# Altium integrated library 74xx-eu.IntLib: 627 symbols (part 2 of 4)
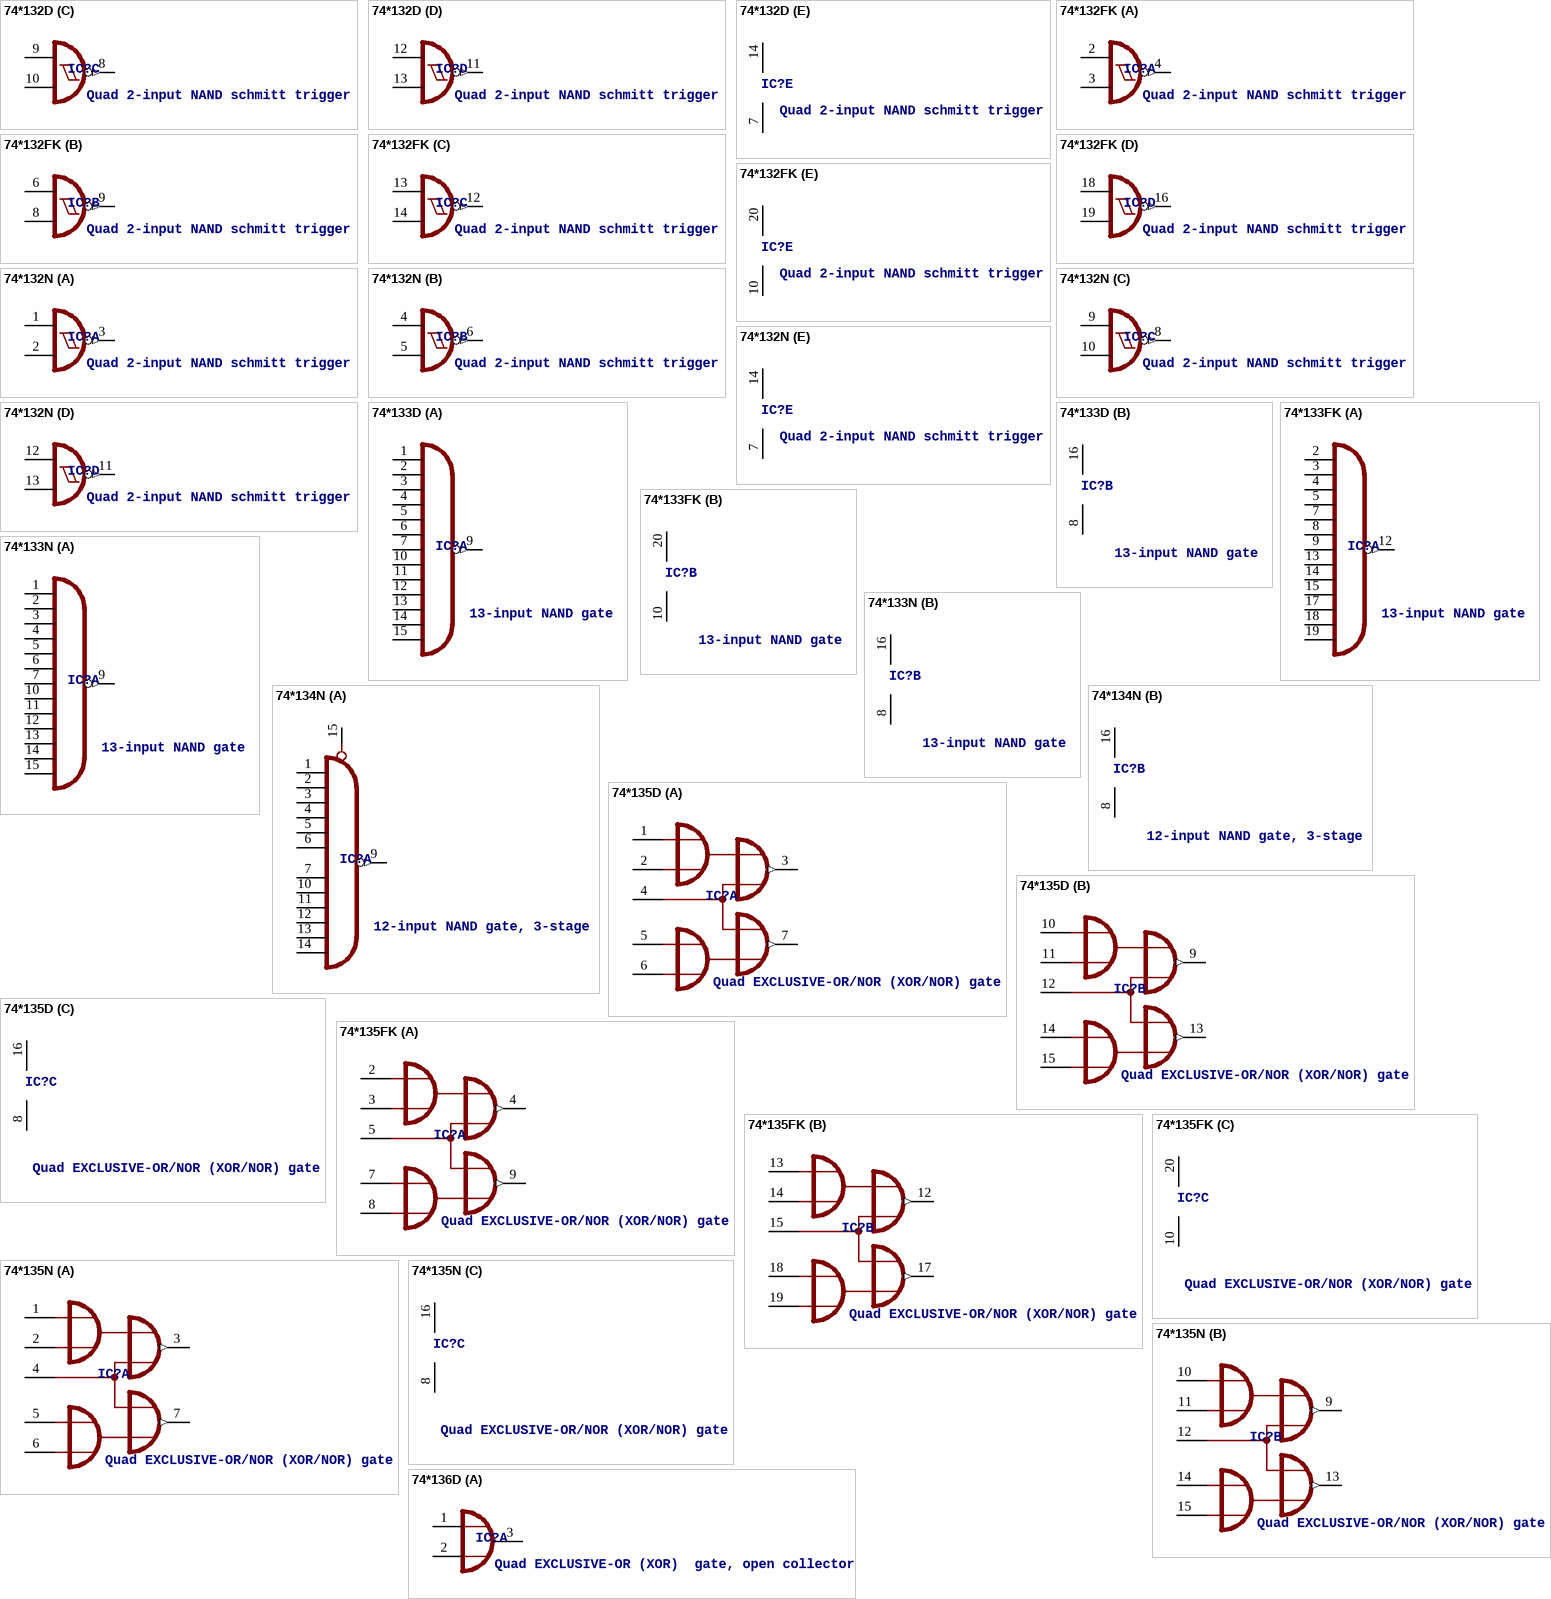
[diagram p56: symbols 74*132D to 74*136D]

## 74*135FK
designator IC?, comment Quad EXCLUSIVE-OR/NOR (XOR/NOR) gate
footprint LCC20
part A pins: 2 1A, 3 1B, 4 1Y (out), 5 C, 7 2A, 8 2B, 9 2Y (out)
part B pins: 12 1Y (out), 13 1A, 14 1B, 15 C, 17 2Y (out), 18 2A, 19 2B
part C pins: 10 GND (power), 20 VCC (power)

## 74*135N
designator IC?, comment Quad EXCLUSIVE-OR/NOR (XOR/NOR) gate
footprint DIL16
part A pins: 1 1A, 2 1B, 3 1Y (out), 4 C, 5 2A, 6 2B, 7 2Y (out)
part B pins: 9 1Y (out), 10 1A, 11 1B, 12 C, 13 2Y (out), 14 2A, 15 2B
part C pins: 8 GND (power), 16 VCC (power)

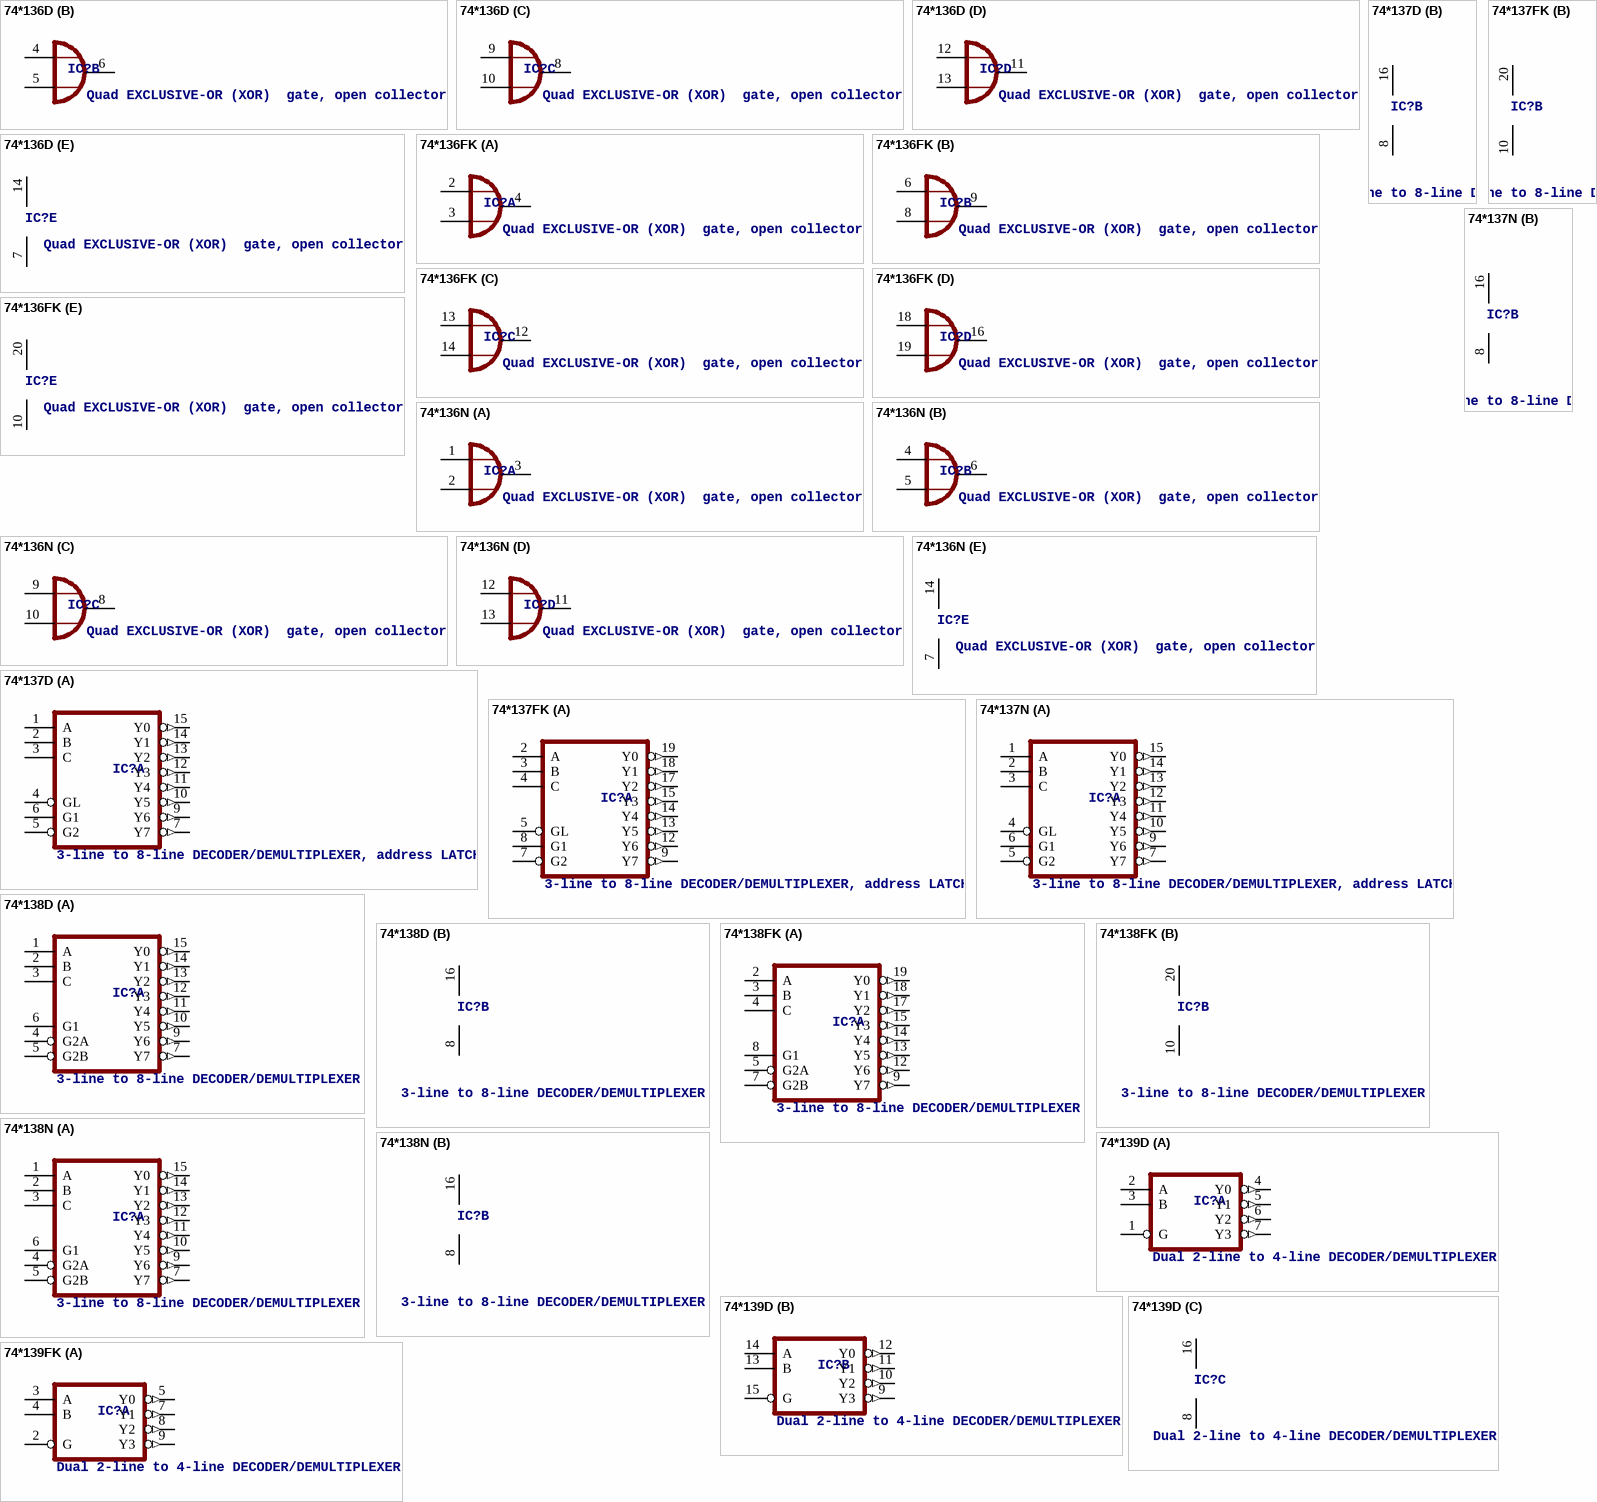
[diagram p20: symbols 74*136D to 74*139FK]

## 74*136D
designator IC?, comment Quad EXCLUSIVE-OR (XOR)  gate, open collector
footprint DIL14
part A pins: 1 I0, 2 I1, 3 O (oc)
part B pins: 4 I0, 5 I1, 6 O (oc)
part C pins: 8 O (oc), 9 I0, 10 I1
part D pins: 11 O (oc), 12 I0, 13 I1
part E pins: 7 GND (power), 14 VCC (power)

## 74*136FK
designator IC?, comment Quad EXCLUSIVE-OR (XOR)  gate, open collector
footprint LCC20
part A pins: 2 I0, 3 I1, 4 O (oc)
part B pins: 6 I0, 8 I1, 9 O (oc)
part C pins: 12 O (oc), 13 I0, 14 I1
part D pins: 16 O (oc), 18 I0, 19 I1
part E pins: 10 GND (power), 20 VCC (power)

## 74*136N
designator IC?, comment Quad EXCLUSIVE-OR (XOR)  gate, open collector
footprint DIL14
part A pins: 1 I0, 2 I1, 3 O (oc)
part B pins: 4 I0, 5 I1, 6 O (oc)
part C pins: 8 O (oc), 9 I0, 10 I1
part D pins: 11 O (oc), 12 I0, 13 I1
part E pins: 7 GND (power), 14 VCC (power)

## 74*137D
designator IC?, comment 3-line to 8-line DECODER/DEMULTIPLEXER, address LATCH
footprint SO16
part A pins: 1 A, 2 B, 3 C, 4 GL, 5 G2, 6 G1, 7 Y7 (out), 9 Y6 (out), 10 Y5 (out), 11 Y4 (out), 12 Y3 (out), 13 Y2 (out), 14 Y1 (out), 15 Y0 (out)
part B pins: 8 GND (power), 16 VCC (power)

## 74*137FK
designator IC?, comment 3-line to 8-line DECODER/DEMULTIPLEXER, address LATCH
footprint LCC20
part A pins: 2 A, 3 B, 4 C, 5 GL, 7 G2, 8 G1, 9 Y7 (out), 12 Y6 (out), 13 Y5 (out), 14 Y4 (out), 15 Y3 (out), 17 Y2 (out), 18 Y1 (out), 19 Y0 (out)
part B pins: 10 GND (power), 20 VCC (power)

## 74*137N
designator IC?, comment 3-line to 8-line DECODER/DEMULTIPLEXER, address LATCH
footprint DIL16
part A pins: 1 A, 2 B, 3 C, 4 GL, 5 G2, 6 G1, 7 Y7 (out), 9 Y6 (out), 10 Y5 (out), 11 Y4 (out), 12 Y3 (out), 13 Y2 (out), 14 Y1 (out), 15 Y0 (out)
part B pins: 8 GND (power), 16 VCC (power)

## 74*138D
designator IC?, comment 3-line to 8-line DECODER/DEMULTIPLEXER
footprint SO16
part A pins: 1 A, 2 B, 3 C, 4 G2A, 5 G2B, 6 G1, 7 Y7 (out), 9 Y6 (out), 10 Y5 (out), 11 Y4 (out), 12 Y3 (out), 13 Y2 (out), 14 Y1 (out), 15 Y0 (out)
part B pins: 8 GND (power), 16 VCC (power)

## 74*138FK
designator IC?, comment 3-line to 8-line DECODER/DEMULTIPLEXER
footprint LCC20
part A pins: 2 A, 3 B, 4 C, 5 G2A, 7 G2B, 8 G1, 9 Y7 (out), 12 Y6 (out), 13 Y5 (out), 14 Y4 (out), 15 Y3 (out), 17 Y2 (out), 18 Y1 (out), 19 Y0 (out)
part B pins: 10 GND (power), 20 VCC (power)

## 74*138N
designator IC?, comment 3-line to 8-line DECODER/DEMULTIPLEXER
footprint DIL16
part A pins: 1 A, 2 B, 3 C, 4 G2A, 5 G2B, 6 G1, 7 Y7 (out), 9 Y6 (out), 10 Y5 (out), 11 Y4 (out), 12 Y3 (out), 13 Y2 (out), 14 Y1 (out), 15 Y0 (out)
part B pins: 8 GND (power), 16 VCC (power)

## 74*139D
designator IC?, comment Dual 2-line to 4-line DECODER/DEMULTIPLEXER
footprint SO16
part A pins: 1 G, 2 A, 3 B, 4 Y0 (out), 5 Y1 (out), 6 Y2 (out), 7 Y3 (out)
part B pins: 9 Y3 (out), 10 Y2 (out), 11 Y1 (out), 12 Y0 (out), 13 B, 14 A, 15 G
part C pins: 8 GND (power), 16 VCC (power)

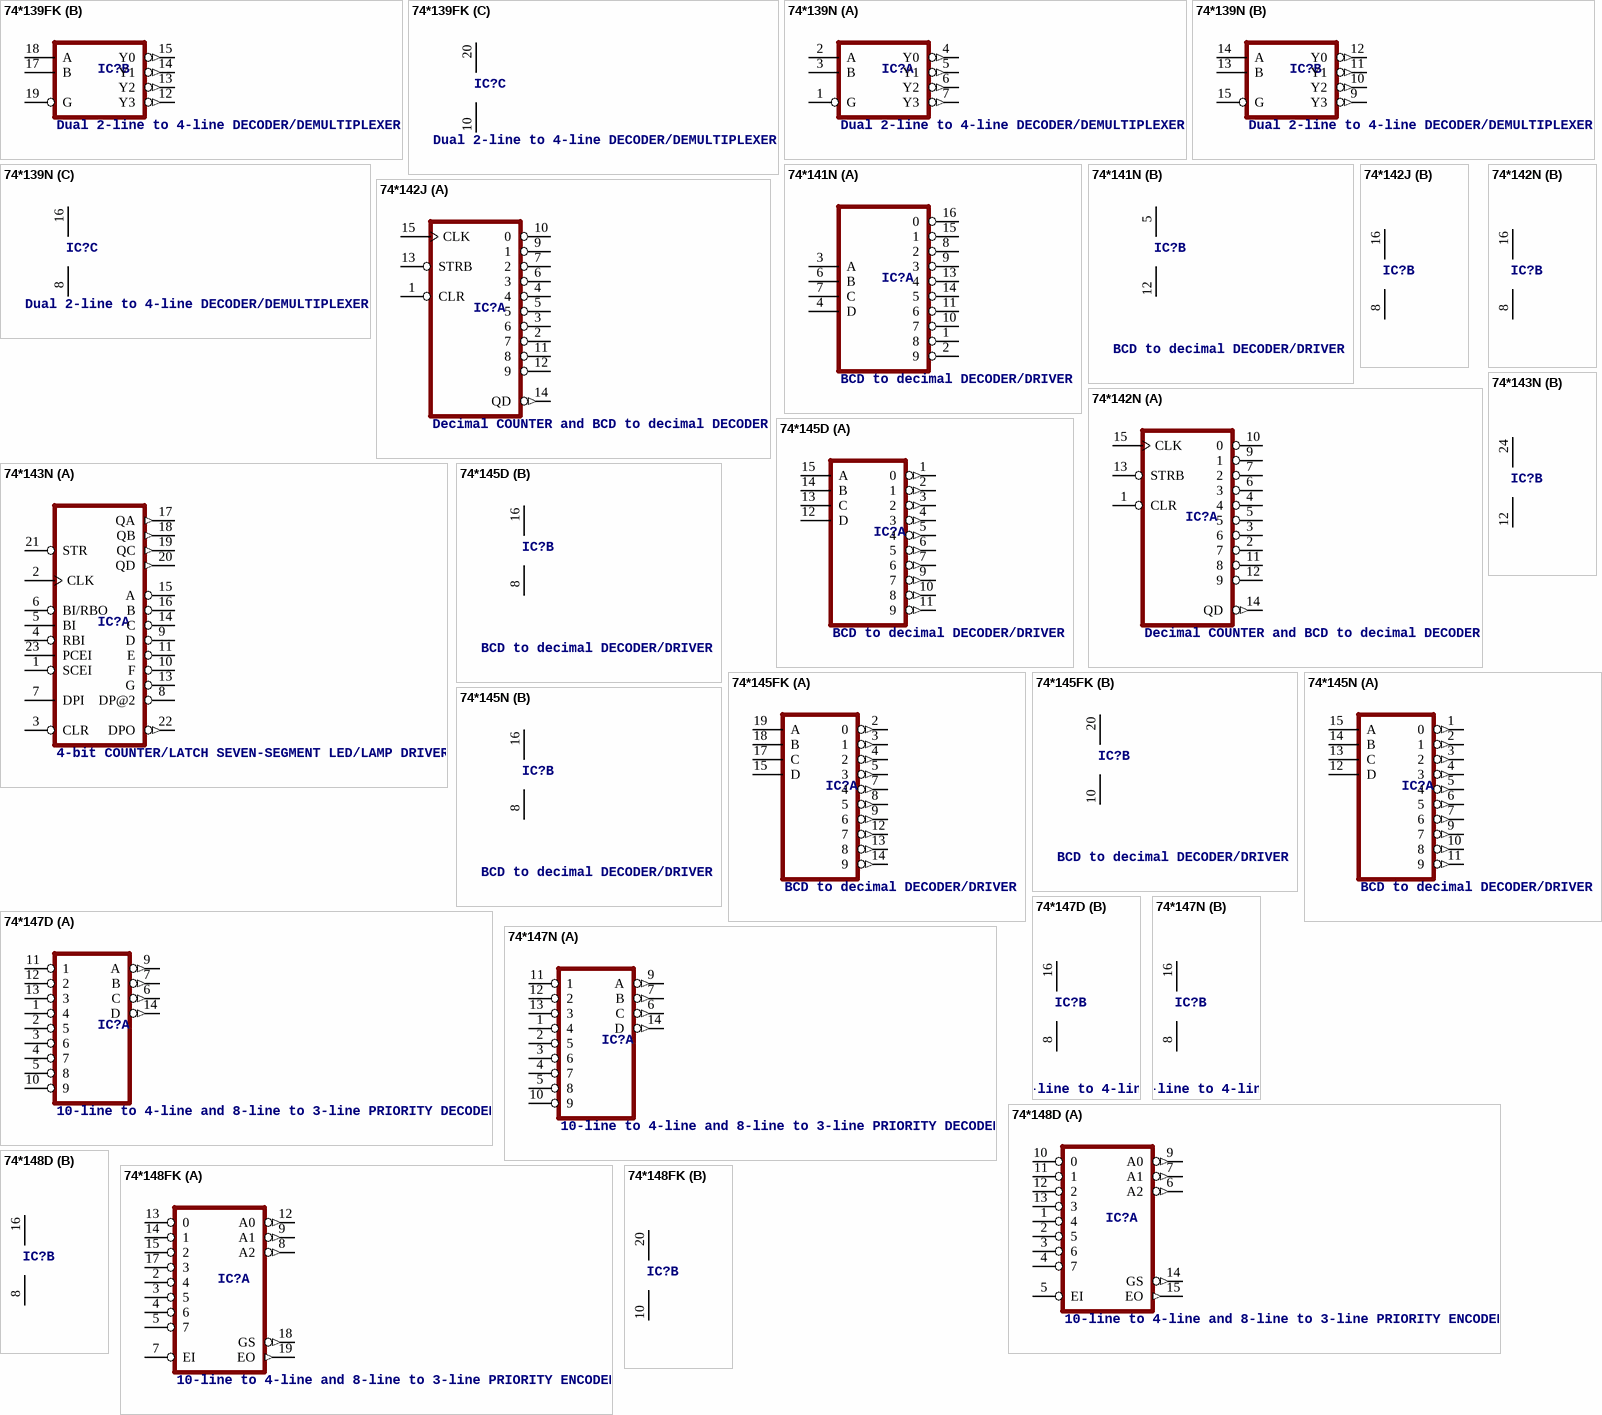
[diagram p21: symbols 74*139FK to 74*148FK]

## 74*139FK
designator IC?, comment Dual 2-line to 4-line DECODER/DEMULTIPLEXER
footprint LCC20
part A pins: 2 G, 3 A, 4 B, 5 Y0 (out), 7 Y1 (out), 8 Y2 (out), 9 Y3 (out)
part B pins: 12 Y3 (out), 13 Y2 (out), 14 Y1 (out), 15 Y0 (out), 17 B, 18 A, 19 G
part C pins: 10 GND (power), 20 VCC (power)

## 74*139N
designator IC?, comment Dual 2-line to 4-line DECODER/DEMULTIPLEXER
footprint DIL16
part A pins: 1 G, 2 A, 3 B, 4 Y0 (out), 5 Y1 (out), 6 Y2 (out), 7 Y3 (out)
part B pins: 9 Y3 (out), 10 Y2 (out), 11 Y1 (out), 12 Y0 (out), 13 B, 14 A, 15 G
part C pins: 8 GND (power), 16 VCC (power)

## 74*141N
designator IC?, comment BCD to decimal DECODER/DRIVER
footprint DIL16
part A pins: 1 8 (oc), 2 9 (oc), 3 A, 4 D, 6 B, 7 C, 8 2 (oc), 9 3 (oc), 10 7 (oc), 11 6 (oc), 13 4 (oc), 14 5 (oc), 15 1 (oc), 16 0 (oc)
part B pins: 5 VCC (power), 12 GND (power)

## 74*142J
designator IC?, comment Decimal COUNTER and BCD to decimal DECODER
footprint SO16
part A pins: 1 CLR, 2 7 (oc), 3 6 (oc), 4 (oc), 5 (oc), 6 3 (oc), 7 2 (oc), 9 1 (oc), 10 0 (oc), 11 8 (oc), 12 9 (oc), 13 STRB, 14 QD (out), 15 CLK
part B pins: 8 GND (power), 16 VCC (power)

## 74*142N
designator IC?, comment Decimal COUNTER and BCD to decimal DECODER
footprint DIL16
part A pins: 1 CLR, 2 7 (oc), 3 6 (oc), 4 (oc), 5 (oc), 6 3 (oc), 7 2 (oc), 9 1 (oc), 10 0 (oc), 11 8 (oc), 12 9 (oc), 13 STRB, 14 QD (out), 15 CLK
part B pins: 8 GND (power), 16 VCC (power)

## 74*143N
designator IC?, comment 4-bit COUNTER/LATCH SEVEN-SEGMENT LED/LAMP DRIVER
footprint DIL24-6
part A pins: 1 SCEI, 2 CLK, 3 CLR, 4 RBI, 5 BI, 6 BI/RBO, 7 DPI, 8 DP@2 (oc), 9 D (oc), 10 F (oc), 11 E (oc), 13 G (oc), 14 C (oc), 15 A (oc), 16 B (oc), 17 QA (out), 18 QB (out), 19 QC (out), 20 QD (out), 21 STR, 22 DPO (out), 23 PCEI
part B pins: 12 GND (power), 24 VCC (power)

## 74*145D
designator IC?, comment BCD to decimal DECODER/DRIVER
footprint SO16
part A pins: 1 0 (out), 2 1 (out), 3 2 (out), 4 3 (out), 5 4 (out), 6 5 (out), 7 6 (out), 9 7 (out), 10 8 (out), 11 9 (out), 12 D, 13 C, 14 B, 15 A
part B pins: 8 GND (power), 16 VCC (power)

## 74*145FK
designator IC?, comment BCD to decimal DECODER/DRIVER
footprint LCC20
part A pins: 2 0 (out), 3 1 (out), 4 2 (out), 5 3 (out), 7 4 (out), 8 5 (out), 9 6 (out), 12 7 (out), 13 8 (out), 14 9 (out), 15 D, 17 C, 18 B, 19 A
part B pins: 10 GND (power), 20 VCC (power)

## 74*145N
designator IC?, comment BCD to decimal DECODER/DRIVER
footprint DIL16
part A pins: 1 0 (out), 2 1 (out), 3 2 (out), 4 3 (out), 5 4 (out), 6 5 (out), 7 6 (out), 9 7 (out), 10 8 (out), 11 9 (out), 12 D, 13 C, 14 B, 15 A
part B pins: 8 GND (power), 16 VCC (power)

## 74*147D
designator IC?, comment 10-line to 4-line and 8-line to 3-line PRIORITY DECODER
footprint SO16
part A pins: 1 4, 2 5, 3 6, 4 7, 5 8, 6 C (out), 7 B (out), 9 A (out), 10 9, 11 1, 12 2, 13 3, 14 D (out)
part B pins: 8 GND (power), 16 VCC (power)

## 74*147N
designator IC?, comment 10-line to 4-line and 8-line to 3-line PRIORITY DECODER
footprint DIL16
part A pins: 1 4, 2 5, 3 6, 4 7, 5 8, 6 C (out), 7 B (out), 9 A (out), 10 9, 11 1, 12 2, 13 3, 14 D (out)
part B pins: 8 GND (power), 16 VCC (power)

## 74*148D
designator IC?, comment 10-line to 4-line and 8-line to 3-line PRIORITY ENCODER
footprint SO16
part A pins: 1 4, 2 5, 3 6, 4 7, 5 EI, 6 A2 (out), 7 A1 (out), 9 A0 (out), 10 0, 11 1, 12 2, 13 3, 14 GS (out), 15 EO (out)
part B pins: 8 GND (power), 16 VCC (power)

## 74*148FK
designator IC?, comment 10-line to 4-line and 8-line to 3-line PRIORITY ENCODER
footprint LCC20
part A pins: 2 4, 3 5, 4 6, 5 7, 7 EI, 8 A2 (out), 9 A1 (out), 12 A0 (out), 13 0, 14 1, 15 2, 17 3, 18 GS (out), 19 EO (out)
part B pins: 10 GND (power), 20 VCC (power)

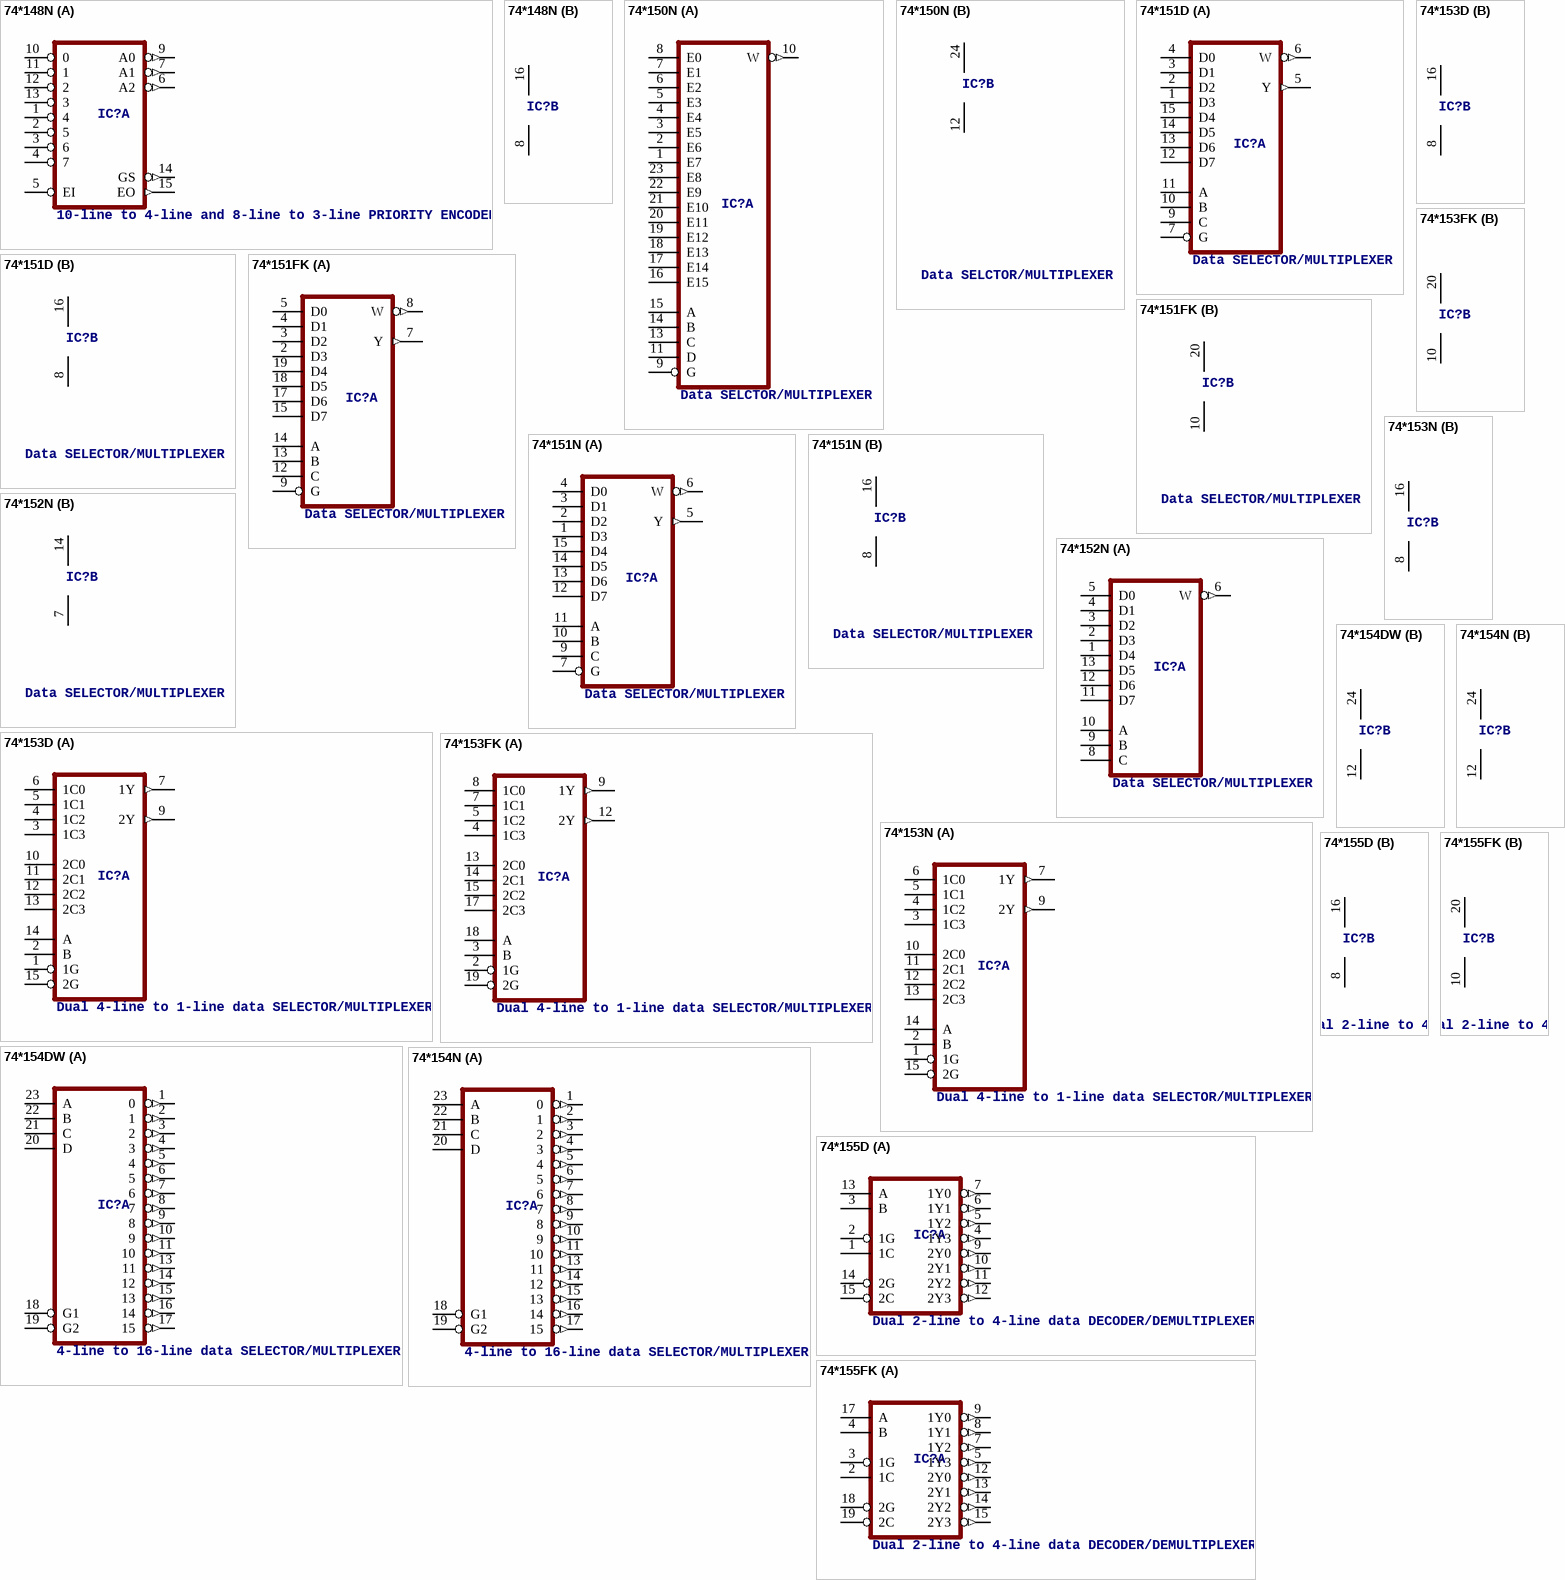
[diagram p22: symbols 74*148N to 74*155FK]

## 74*148N
designator IC?, comment 10-line to 4-line and 8-line to 3-line PRIORITY ENCODER
footprint DIL16
part A pins: 1 4, 2 5, 3 6, 4 7, 5 EI, 6 A2 (out), 7 A1 (out), 9 A0 (out), 10 0, 11 1, 12 2, 13 3, 14 GS (out), 15 EO (out)
part B pins: 8 GND (power), 16 VCC (power)

## 74*150N
designator IC?, comment Data SELCTOR/MULTIPLEXER
footprint DIL24-6
part A pins: 1 E7, 2 E6, 3 E5, 4 E4, 5 E3, 6 E2, 7 E1, 8 E0, 9 G, 10 W (out), 11 D, 13 C, 14 B, 15 A, 16 E15, 17 E14, 18 E13, 19 E12, 20 E11, 21 E10, 22 E9, 23 E8
part B pins: 12 GND (power), 24 VCC (power)

## 74*151D
designator IC?, comment Data SELECTOR/MULTIPLEXER
footprint SO16
part A pins: 1 D3, 2 D2, 3 D1, 4 D0, 5 Y (out), 6 W (out), 7 G, 9 C, 10 B, 11 A, 12 D7, 13 D6, 14 D5, 15 D4
part B pins: 8 GND (power), 16 VCC (power)

## 74*151FK
designator IC?, comment Data SELECTOR/MULTIPLEXER
footprint LCC20
part A pins: 2 D3, 3 D2, 4 D1, 5 D0, 7 Y (out), 8 W (out), 9 G, 12 C, 13 B, 14 A, 15 D7, 17 D6, 18 D5, 19 D4
part B pins: 10 GND (power), 20 VCC (power)

## 74*151N
designator IC?, comment Data SELECTOR/MULTIPLEXER
footprint DIL16
part A pins: 1 D3, 2 D2, 3 D1, 4 D0, 5 Y (out), 6 W (out), 7 G, 9 C, 10 B, 11 A, 12 D7, 13 D6, 14 D5, 15 D4
part B pins: 8 GND (power), 16 VCC (power)

## 74*152N
designator IC?, comment Data SELECTOR/MULTIPLEXER
footprint DIL14
part A pins: 1 D4, 2 D3, 3 D2, 4 D1, 5 D0, 6 W (out), 8 C, 9 B, 10 A, 11 D7, 12 D6, 13 D5
part B pins: 7 GND (power), 14 VCC (power)

## 74*153D
designator IC?, comment Dual 4-line to 1-line data SELECTOR/MULTIPLEXER
footprint SO16
part A pins: 1 1G, 2 B, 3 1C3, 4 1C2, 5 1C1, 6 1C0, 7 1Y (out), 9 2Y (out), 10 2C0, 11 2C1, 12 2C2, 13 2C3, 14 A, 15 2G
part B pins: 8 GND (power), 16 VCC (power)

## 74*153FK
designator IC?, comment Dual 4-line to 1-line data SELECTOR/MULTIPLEXER
footprint LCC20
part A pins: 2 1G, 3 B, 4 1C3, 5 1C2, 7 1C1, 8 1C0, 9 1Y (out), 12 2Y (out), 13 2C0, 14 2C1, 15 2C2, 17 2C3, 18 A, 19 2G
part B pins: 10 GND (power), 20 VCC (power)

## 74*153N
designator IC?, comment Dual 4-line to 1-line data SELECTOR/MULTIPLEXER
footprint DIL16
part A pins: 1 1G, 2 B, 3 1C3, 4 1C2, 5 1C1, 6 1C0, 7 1Y (out), 9 2Y (out), 10 2C0, 11 2C1, 12 2C2, 13 2C3, 14 A, 15 2G
part B pins: 8 GND (power), 16 VCC (power)

## 74*154DW
designator IC?, comment 4-line to 16-line data SELECTOR/MULTIPLEXER
footprint SO24W
part A pins: 1 0 (out), 2 1 (out), 3 2 (out), 4 3 (out), 5 4 (out), 6 5 (out), 7 6 (out), 8 7 (out), 9 8 (out), 10 9 (out), 11 10 (out), 13 11 (out), 14 12 (out), 15 13 (out), 16 14 (out), 17 15 (out), 18 G1, 19 G2, 20 D, 21 C, 22 B, 23 A
part B pins: 12 GND (power), 24 VCC (power)

## 74*154N
designator IC?, comment 4-line to 16-line data SELECTOR/MULTIPLEXER
footprint DIL24-6
part A pins: 1 0 (out), 2 1 (out), 3 2 (out), 4 3 (out), 5 4 (out), 6 5 (out), 7 6 (out), 8 7 (out), 9 8 (out), 10 9 (out), 11 10 (out), 13 11 (out), 14 12 (out), 15 13 (out), 16 14 (out), 17 15 (out), 18 G1, 19 G2, 20 D, 21 C, 22 B, 23 A
part B pins: 12 GND (power), 24 VCC (power)

## 74*155D
designator IC?, comment Dual 2-line to 4-line data DECODER/DEMULTIPLEXER
footprint SO16
part A pins: 1 1C, 2 1G, 3 B, 4 1Y3 (out), 5 1Y2 (out), 6 1Y1 (out), 7 1Y0 (out), 9 2Y0 (out), 10 2Y1 (out), 11 2Y2 (out), 12 2Y3 (out), 13 A, 14 2G, 15 2C
part B pins: 8 GND (power), 16 VCC (power)

## 74*155FK
designator IC?, comment Dual 2-line to 4-line data DECODER/DEMULTIPLEXER
footprint LCC20
part A pins: 2 1C, 3 1G, 4 B, 5 1Y3 (out), 7 1Y2 (out), 8 1Y1 (out), 9 1Y0 (out), 12 2Y0 (out), 13 2Y1 (out), 14 2Y2 (out), 15 2Y3 (out), 17 A, 18 2G, 19 2C
part B pins: 10 GND (power), 20 VCC (power)

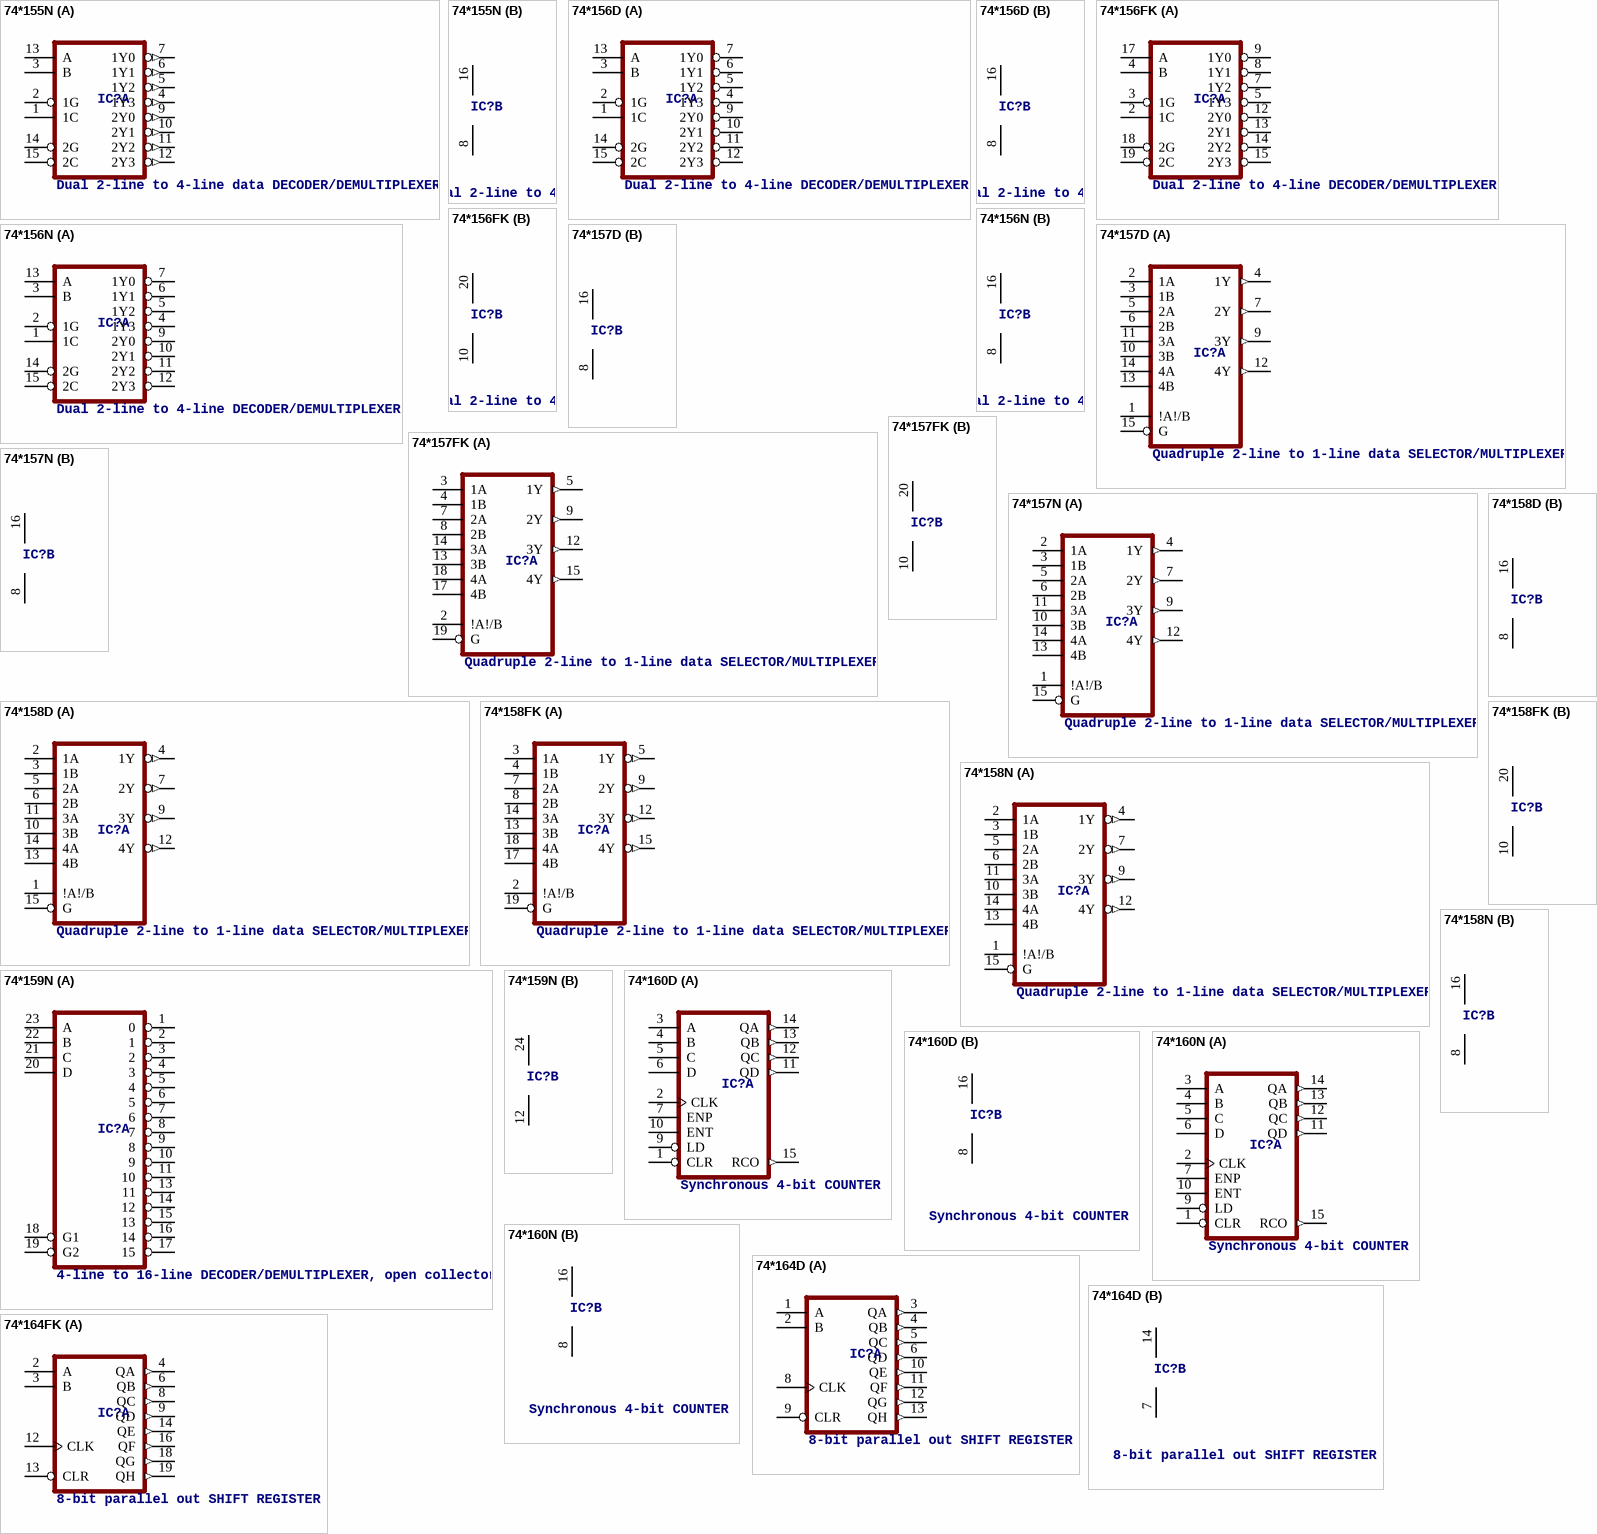
[diagram p23: symbols 74*155N to 74*164FK]

## 74*155N
designator IC?, comment Dual 2-line to 4-line data DECODER/DEMULTIPLEXER
footprint DIL16
part A pins: 1 1C, 2 1G, 3 B, 4 1Y3 (out), 5 1Y2 (out), 6 1Y1 (out), 7 1Y0 (out), 9 2Y0 (out), 10 2Y1 (out), 11 2Y2 (out), 12 2Y3 (out), 13 A, 14 2G, 15 2C
part B pins: 8 GND (power), 16 VCC (power)

## 74*156D
designator IC?, comment Dual 2-line to 4-line DECODER/DEMULTIPLEXER
footprint SO16
part A pins: 1 1C, 2 1G, 3 B, 4 1Y3 (oc), 5 1Y2 (oc), 6 1Y1 (oc), 7 1Y0 (oc), 9 2Y0 (oc), 10 2Y1 (oc), 11 2Y2 (oc), 12 2Y3 (oc), 13 A, 14 2G, 15 2C
part B pins: 8 GND (power), 16 VCC (power)

## 74*156FK
designator IC?, comment Dual 2-line to 4-line DECODER/DEMULTIPLEXER
footprint LCC20
part A pins: 2 1C, 3 1G, 4 B, 5 1Y3 (oc), 7 1Y2 (oc), 8 1Y1 (oc), 9 1Y0 (oc), 12 2Y0 (oc), 13 2Y1 (oc), 14 2Y2 (oc), 15 2Y3 (oc), 17 A, 18 2G, 19 2C
part B pins: 10 GND (power), 20 VCC (power)

## 74*156N
designator IC?, comment Dual 2-line to 4-line DECODER/DEMULTIPLEXER
footprint DIL16
part A pins: 1 1C, 2 1G, 3 B, 4 1Y3 (oc), 5 1Y2 (oc), 6 1Y1 (oc), 7 1Y0 (oc), 9 2Y0 (oc), 10 2Y1 (oc), 11 2Y2 (oc), 12 2Y3 (oc), 13 A, 14 2G, 15 2C
part B pins: 8 GND (power), 16 VCC (power)

## 74*157D
designator IC?, comment Quadruple 2-line to 1-line data SELECTOR/MULTIPLEXER
footprint SO16
part A pins: 1 !A!/B, 2 1A, 3 1B, 4 1Y (out), 5 2A, 6 2B, 7 2Y (out), 9 3Y (out), 10 3B, 11 3A, 12 4Y (out), 13 4B, 14 4A, 15 G
part B pins: 8 GND (power), 16 VCC (power)

## 74*157FK
designator IC?, comment Quadruple 2-line to 1-line data SELECTOR/MULTIPLEXER
footprint LCC20
part A pins: 2 !A!/B, 3 1A, 4 1B, 5 1Y (out), 7 2A, 8 2B, 9 2Y (out), 12 3Y (out), 13 3B, 14 3A, 15 4Y (out), 17 4B, 18 4A, 19 G
part B pins: 10 GND (power), 20 VCC (power)

## 74*157N
designator IC?, comment Quadruple 2-line to 1-line data SELECTOR/MULTIPLEXER
footprint DIL16
part A pins: 1 !A!/B, 2 1A, 3 1B, 4 1Y (out), 5 2A, 6 2B, 7 2Y (out), 9 3Y (out), 10 3B, 11 3A, 12 4Y (out), 13 4B, 14 4A, 15 G
part B pins: 8 GND (power), 16 VCC (power)

## 74*158D
designator IC?, comment Quadruple 2-line to 1-line data SELECTOR/MULTIPLEXER
footprint SO16
part A pins: 1 !A!/B, 2 1A, 3 1B, 4 1Y (out), 5 2A, 6 2B, 7 2Y (out), 9 3Y (out), 10 3B, 11 3A, 12 4Y (out), 13 4B, 14 4A, 15 G
part B pins: 8 GND (power), 16 VCC (power)

## 74*158FK
designator IC?, comment Quadruple 2-line to 1-line data SELECTOR/MULTIPLEXER
footprint LCC20
part A pins: 2 !A!/B, 3 1A, 4 1B, 5 1Y (out), 7 2A, 8 2B, 9 2Y (out), 12 3Y (out), 13 3B, 14 3A, 15 4Y (out), 17 4B, 18 4A, 19 G
part B pins: 10 GND (power), 20 VCC (power)

## 74*158N
designator IC?, comment Quadruple 2-line to 1-line data SELECTOR/MULTIPLEXER
footprint DIL16
part A pins: 1 !A!/B, 2 1A, 3 1B, 4 1Y (out), 5 2A, 6 2B, 7 2Y (out), 9 3Y (out), 10 3B, 11 3A, 12 4Y (out), 13 4B, 14 4A, 15 G
part B pins: 8 GND (power), 16 VCC (power)

## 74*159N
designator IC?, comment 4-line to 16-line DECODER/DEMULTIPLEXER, open collector
footprint DIL24-6
part A pins: 1 0 (oc), 2 1 (oc), 3 2 (oc), 4 3 (oc), 5 4 (oc), 6 5 (oc), 7 6 (oc), 8 7 (oc), 9 8 (oc), 10 9 (oc), 11 10 (oc), 13 11 (oc), 14 12 (oc), 15 13 (oc), 16 14 (oc), 17 15 (oc), 18 G1, 19 G2, 20 D, 21 C, 22 B, 23 A
part B pins: 12 GND (power), 24 VCC (power)

## 74*160D
designator IC?, comment Synchronous 4-bit COUNTER
footprint SO16
part A pins: 1 CLR, 2 CLK, 3 A, 4 B, 5 C, 6 D, 7 ENP, 9 LD, 10 ENT, 11 QD (out), 12 QC (out), 13 QB (out), 14 QA (out), 15 RCO (out)
part B pins: 8 GND (power), 16 VCC (power)

## 74*160N
designator IC?, comment Synchronous 4-bit COUNTER
footprint DIL16
part A pins: 1 CLR, 2 CLK, 3 A, 4 B, 5 C, 6 D, 7 ENP, 9 LD, 10 ENT, 11 QD (out), 12 QC (out), 13 QB (out), 14 QA (out), 15 RCO (out)
part B pins: 8 GND (power), 16 VCC (power)

## 74*164D
designator IC?, comment 8-bit parallel out SHIFT REGISTER
footprint SO14
part A pins: 1 A, 2 B, 3 QA (out), 4 QB (out), 5 QC (out), 6 QD (out), 8 CLK, 9 CLR, 10 QE (out), 11 QF (out), 12 QG (out), 13 QH (out)
part B pins: 7 GND (power), 14 VCC (power)

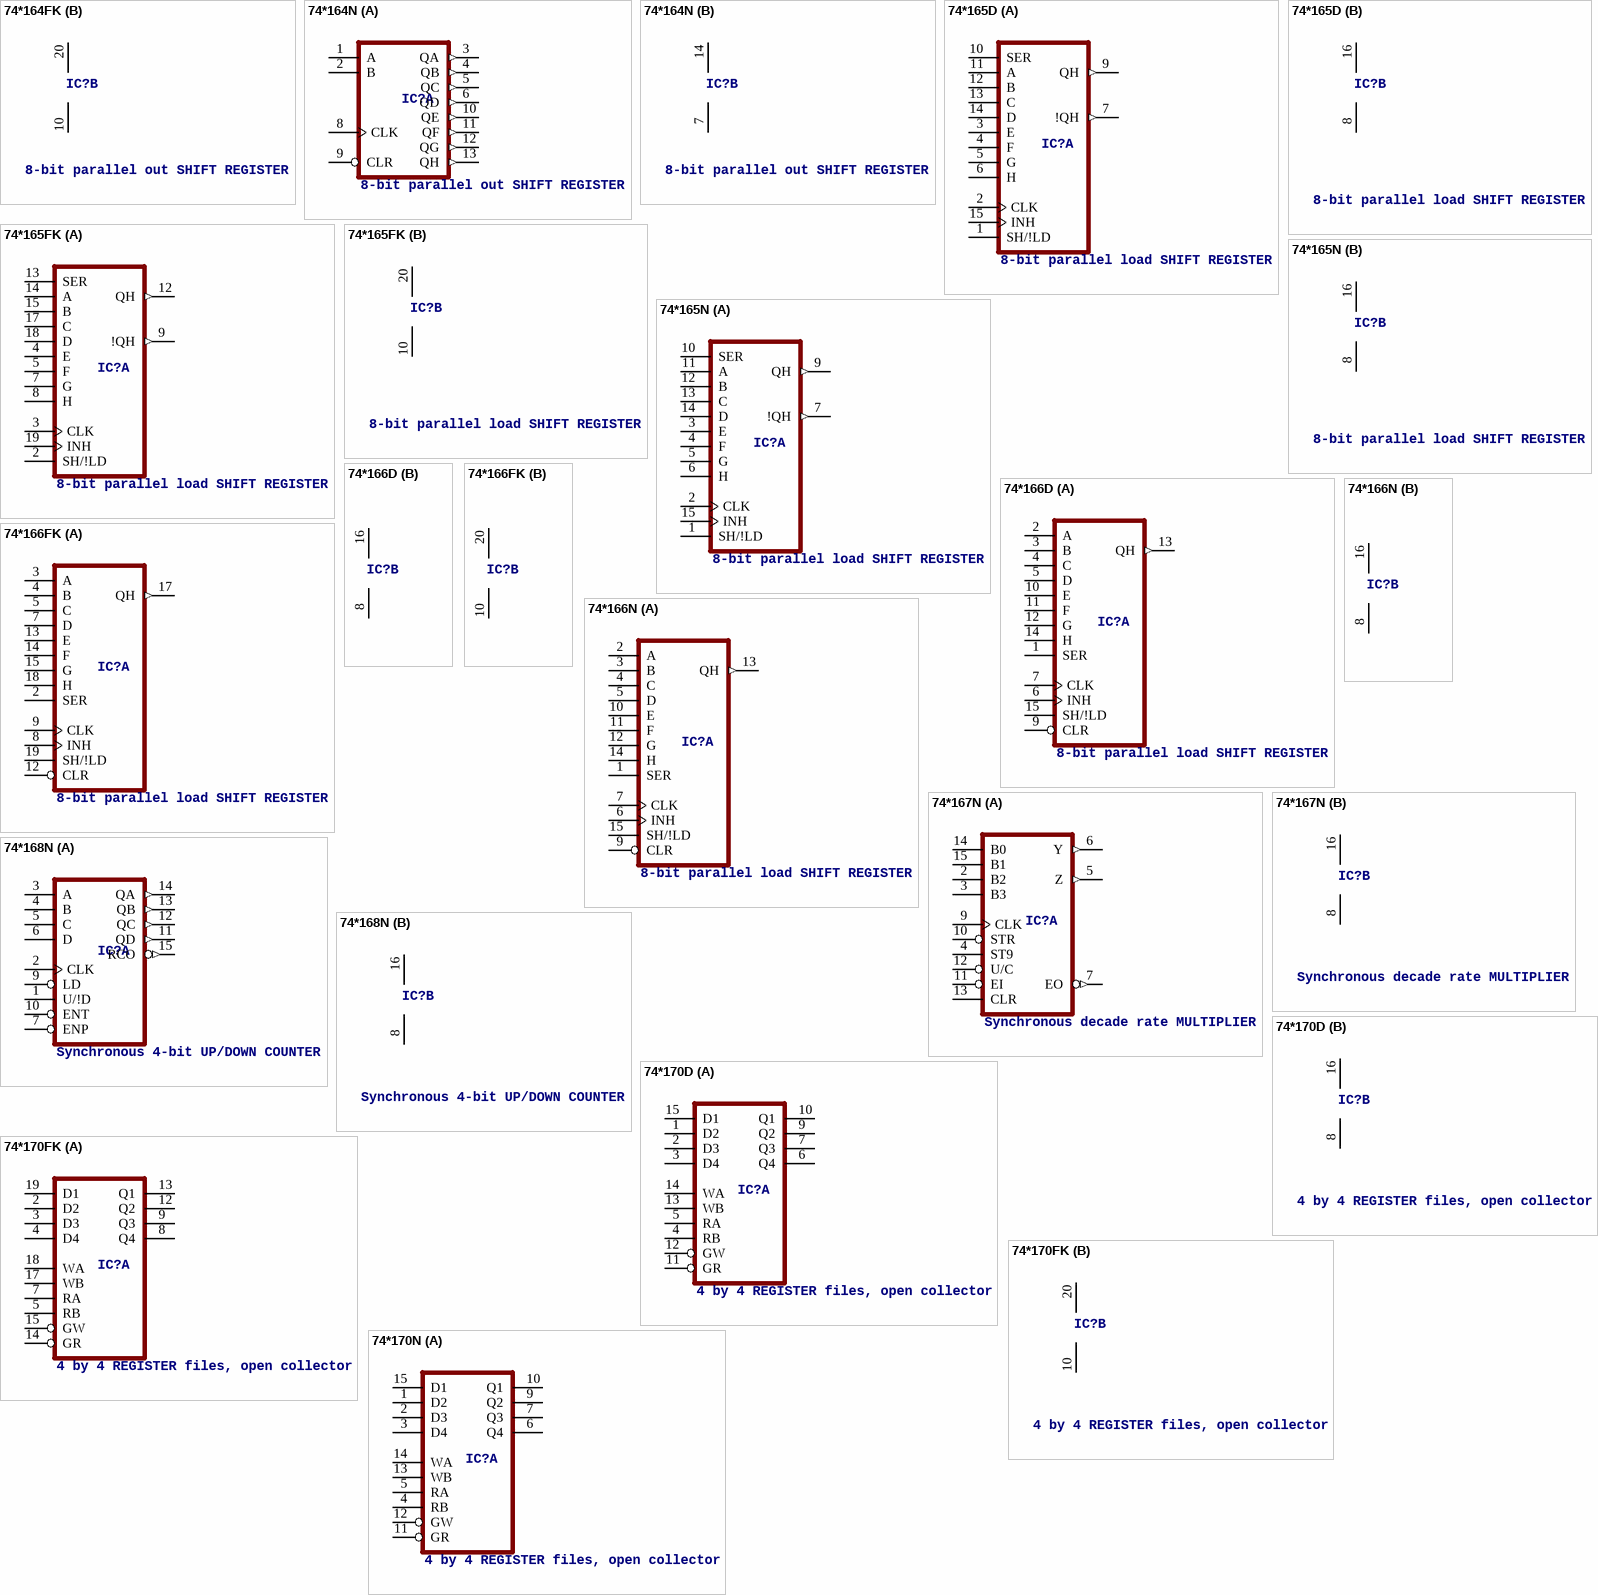
[diagram p24: symbols 74*164FK to 74*170N]

## 74*164FK
designator IC?, comment 8-bit parallel out SHIFT REGISTER
footprint LCC20
part A pins: 2 A, 3 B, 4 QA (out), 6 QB (out), 8 QC (out), 9 QD (out), 12 CLK, 13 CLR, 14 QE (out), 16 QF (out), 18 QG (out), 19 QH (out)
part B pins: 10 GND (power), 20 VCC (power)

## 74*164N
designator IC?, comment 8-bit parallel out SHIFT REGISTER
footprint DIL14
part A pins: 1 A, 2 B, 3 QA (out), 4 QB (out), 5 QC (out), 6 QD (out), 8 CLK, 9 CLR, 10 QE (out), 11 QF (out), 12 QG (out), 13 QH (out)
part B pins: 7 GND (power), 14 VCC (power)

## 74*165D
designator IC?, comment 8-bit parallel load SHIFT REGISTER
footprint SO16
part A pins: 1 SH/!LD, 2 CLK, 3 E, 4 F, 5 G, 6 H, 7 !QH (out), 9 QH (out), 10 SER, 11 A, 12 B, 13 C, 14 D, 15 INH
part B pins: 8 GND (power), 16 VCC (power)

## 74*165FK
designator IC?, comment 8-bit parallel load SHIFT REGISTER
footprint LCC20
part A pins: 2 SH/!LD, 3 CLK, 4 E, 5 F, 7 G, 8 H, 9 !QH (out), 12 QH (out), 13 SER, 14 A, 15 B, 17 C, 18 D, 19 INH
part B pins: 10 GND (power), 20 VCC (power)

## 74*165N
designator IC?, comment 8-bit parallel load SHIFT REGISTER
footprint DIL16
part A pins: 1 SH/!LD, 2 CLK, 3 E, 4 F, 5 G, 6 H, 7 !QH (out), 9 QH (out), 10 SER, 11 A, 12 B, 13 C, 14 D, 15 INH
part B pins: 8 GND (power), 16 VCC (power)

## 74*166D
designator IC?, comment 8-bit parallel load SHIFT REGISTER
footprint SO16
part A pins: 1 SER, 2 A, 3 B, 4 C, 5 D, 6 INH, 7 CLK, 9 CLR, 10 E, 11 F, 12 G, 13 QH (out), 14 H, 15 SH/!LD
part B pins: 8 GND (power), 16 VCC (power)

## 74*166FK
designator IC?, comment 8-bit parallel load SHIFT REGISTER
footprint LCC20
part A pins: 2 SER, 3 A, 4 B, 5 C, 7 D, 8 INH, 9 CLK, 12 CLR, 13 E, 14 F, 15 G, 17 QH (out), 18 H, 19 SH/!LD
part B pins: 10 GND (power), 20 VCC (power)

## 74*166N
designator IC?, comment 8-bit parallel load SHIFT REGISTER
footprint DIL16
part A pins: 1 SER, 2 A, 3 B, 4 C, 5 D, 6 INH, 7 CLK, 9 CLR, 10 E, 11 F, 12 G, 13 QH (out), 14 H, 15 SH/!LD
part B pins: 8 GND (power), 16 VCC (power)

## 74*167N
designator IC?, comment Synchronous decade rate MULTIPLIER
footprint DIL16
part A pins: 2 B2, 3 B3, 4 ST9, 5 Z (out), 6 Y (out), 7 EO (out), 9 CLK, 10 STR, 11 EI, 12 U/C, 13 CLR, 14 B0, 15 B1
part B pins: 8 GND (power), 16 VCC (power)

## 74*168N
designator IC?, comment Synchronous 4-bit UP/DOWN COUNTER
footprint DIL16
part A pins: 1 U/!D, 2 CLK, 3 A, 4 B, 5 C, 6 D, 7 ENP, 9 LD, 10 ENT, 11 QD (out), 12 QC (out), 13 QB (out), 14 QA (out), 15 RCO (out)
part B pins: 8 GND (power), 16 VCC (power)

## 74*170D
designator IC?, comment 4 by 4 REGISTER files, open collector
footprint SO16
part A pins: 1 D2, 2 D3, 3 D4, 4 RB, 5 RA, 6 Q4 (oc), 7 Q3 (oc), 9 Q2 (oc), 10 Q1 (oc), 11 GR, 12 GW, 13 WB, 14 WA, 15 D1
part B pins: 8 GND (power), 16 VCC (power)

## 74*170FK
designator IC?, comment 4 by 4 REGISTER files, open collector
footprint LCC20
part A pins: 2 D2, 3 D3, 4 D4, 5 RB, 7 RA, 8 Q4 (oc), 9 Q3 (oc), 12 Q2 (oc), 13 Q1 (oc), 14 GR, 15 GW, 17 WB, 18 WA, 19 D1
part B pins: 10 GND (power), 20 VCC (power)

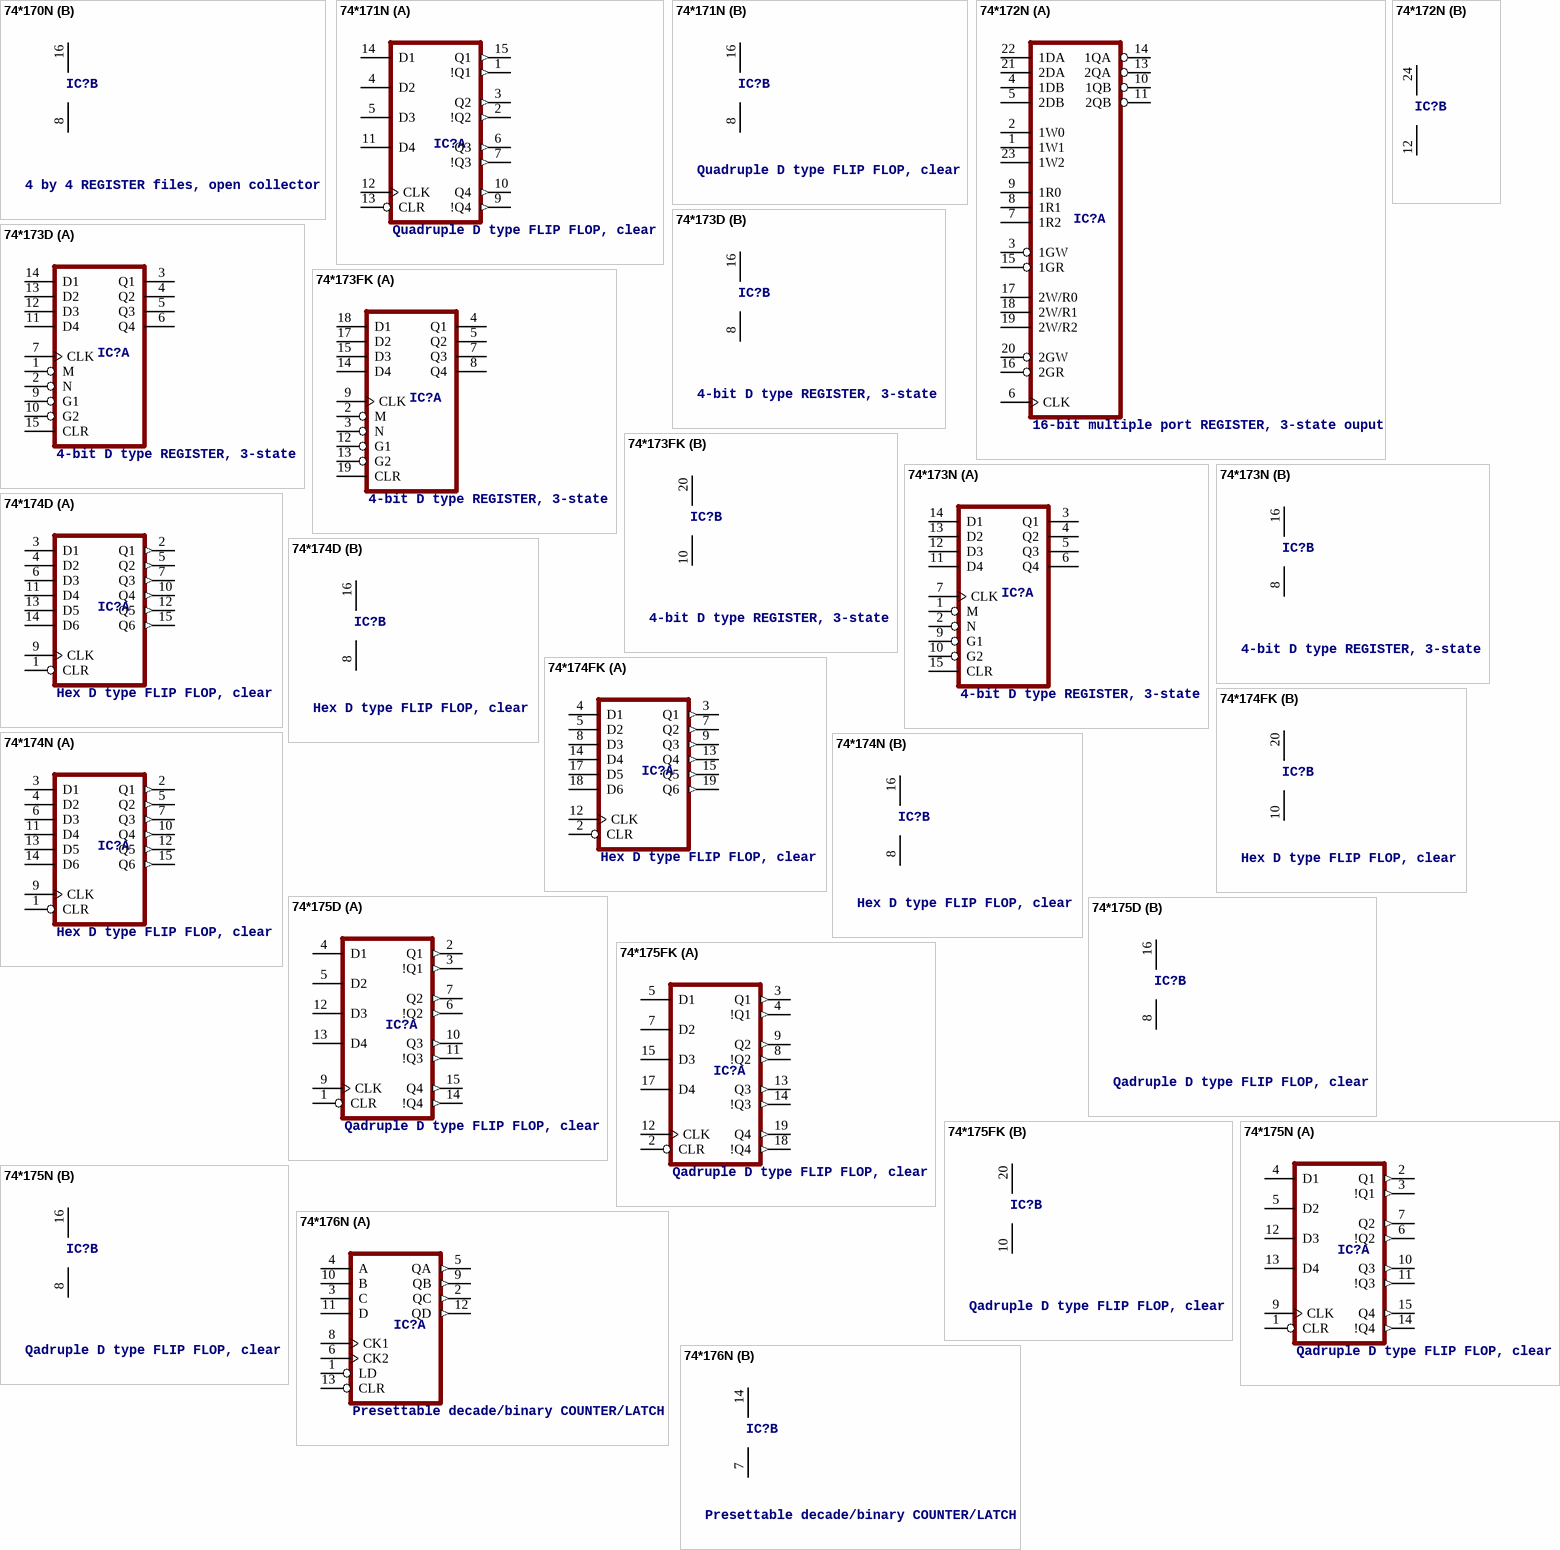
[diagram p25: symbols 74*170N to 74*176N]

## 74*170N
designator IC?, comment 4 by 4 REGISTER files, open collector
footprint DIL16
part A pins: 1 D2, 2 D3, 3 D4, 4 RB, 5 RA, 6 Q4 (oc), 7 Q3 (oc), 9 Q2 (oc), 10 Q1 (oc), 11 GR, 12 GW, 13 WB, 14 WA, 15 D1
part B pins: 8 GND (power), 16 VCC (power)

## 74*171N
designator IC?, comment Quadruple D type FLIP FLOP, clear
footprint DIL16
part A pins: 1 !Q1 (out), 2 !Q2 (out), 3 Q2 (out), 4 D2, 5 D3, 6 Q3 (out), 7 !Q3 (out), 9 !Q4 (out), 10 Q4 (out), 11 D4, 12 CLK, 13 CLR, 14 D1, 15 Q1 (out)
part B pins: 8 GND (power), 16 VCC (power)

## 74*172N
designator IC?, comment 16-bit multiple port REGISTER, 3-state ouput
footprint DIL24-6
part A pins: 1 1W1, 2 1W0, 3 1GW, 4 1DB, 5 2DB, 6 CLK, 7 1R2, 8 1R1, 9 1R0, 10 1QB (hiz), 11 2QB (hiz), 13 2QA (hiz), 14 1QA (hiz), 15 1GR, 16 2GR, 17 2W/R0, 18 2W/R1, 19 2W/R2, 20 2GW, 21 2DA, 22 1DA, 23 1W2
part B pins: 12 GND (power), 24 VCC (power)

## 74*173D
designator IC?, comment 4-bit D type REGISTER, 3-state
footprint SO16
part A pins: 1 M, 2 N, 3 Q1 (hiz), 4 Q2 (hiz), 5 Q3 (hiz), 6 Q4 (hiz), 7 CLK, 9 G1, 10 G2, 11 D4, 12 D3, 13 D2, 14 D1, 15 CLR
part B pins: 8 GND (power), 16 VCC (power)

## 74*173FK
designator IC?, comment 4-bit D type REGISTER, 3-state
footprint LCC20
part A pins: 2 M, 3 N, 4 Q1 (hiz), 5 Q2 (hiz), 7 Q3 (hiz), 8 Q4 (hiz), 9 CLK, 12 G1, 13 G2, 14 D4, 15 D3, 17 D2, 18 D1, 19 CLR
part B pins: 10 GND (power), 20 VCC (power)

## 74*173N
designator IC?, comment 4-bit D type REGISTER, 3-state
footprint DIL16
part A pins: 1 M, 2 N, 3 Q1 (hiz), 4 Q2 (hiz), 5 Q3 (hiz), 6 Q4 (hiz), 7 CLK, 9 G1, 10 G2, 11 D4, 12 D3, 13 D2, 14 D1, 15 CLR
part B pins: 8 GND (power), 16 VCC (power)

## 74*174D
designator IC?, comment Hex D type FLIP FLOP, clear
footprint SO16
part A pins: 1 CLR, 2 Q1 (out), 3 D1, 4 D2, 5 Q2 (out), 6 D3, 7 Q3 (out), 9 CLK, 10 Q4 (out), 11 D4, 12 Q5 (out), 13 D5, 14 D6, 15 Q6 (out)
part B pins: 8 GND (power), 16 VCC (power)

## 74*174FK
designator IC?, comment Hex D type FLIP FLOP, clear
footprint LCC20
part A pins: 2 CLR, 3 Q1 (out), 4 D1, 5 D2, 7 Q2 (out), 8 D3, 9 Q3 (out), 12 CLK, 13 Q4 (out), 14 D4, 15 Q5 (out), 17 D5, 18 D6, 19 Q6 (out)
part B pins: 10 GND (power), 20 VCC (power)

## 74*174N
designator IC?, comment Hex D type FLIP FLOP, clear
footprint DIL16
part A pins: 1 CLR, 2 Q1 (out), 3 D1, 4 D2, 5 Q2 (out), 6 D3, 7 Q3 (out), 9 CLK, 10 Q4 (out), 11 D4, 12 Q5 (out), 13 D5, 14 D6, 15 Q6 (out)
part B pins: 8 GND (power), 16 VCC (power)

## 74*175D
designator IC?, comment Qadruple D type FLIP FLOP, clear
footprint SO16
part A pins: 1 CLR, 2 Q1 (out), 3 !Q1 (out), 4 D1, 5 D2, 6 !Q2 (out), 7 Q2 (out), 9 CLK, 10 Q3 (out), 11 !Q3 (out), 12 D3, 13 D4, 14 !Q4 (out), 15 Q4 (out)
part B pins: 8 GND (power), 16 VCC (power)

## 74*175FK
designator IC?, comment Qadruple D type FLIP FLOP, clear
footprint LCC20
part A pins: 2 CLR, 3 Q1 (out), 4 !Q1 (out), 5 D1, 7 D2, 8 !Q2 (out), 9 Q2 (out), 12 CLK, 13 Q3 (out), 14 !Q3 (out), 15 D3, 17 D4, 18 !Q4 (out), 19 Q4 (out)
part B pins: 10 GND (power), 20 VCC (power)

## 74*175N
designator IC?, comment Qadruple D type FLIP FLOP, clear
footprint DIL16
part A pins: 1 CLR, 2 Q1 (out), 3 !Q1 (out), 4 D1, 5 D2, 6 !Q2 (out), 7 Q2 (out), 9 CLK, 10 Q3 (out), 11 !Q3 (out), 12 D3, 13 D4, 14 !Q4 (out), 15 Q4 (out)
part B pins: 8 GND (power), 16 VCC (power)

## 74*176N
designator IC?, comment Presettable decade/binary COUNTER/LATCH
footprint DIL14
part A pins: 1 LD, 2 QC (out), 3 C, 4 A, 5 QA (out), 6 CK2, 8 CK1, 9 QB (out), 10 B, 11 D, 12 QD (out), 13 CLR
part B pins: 7 GND (power), 14 VCC (power)

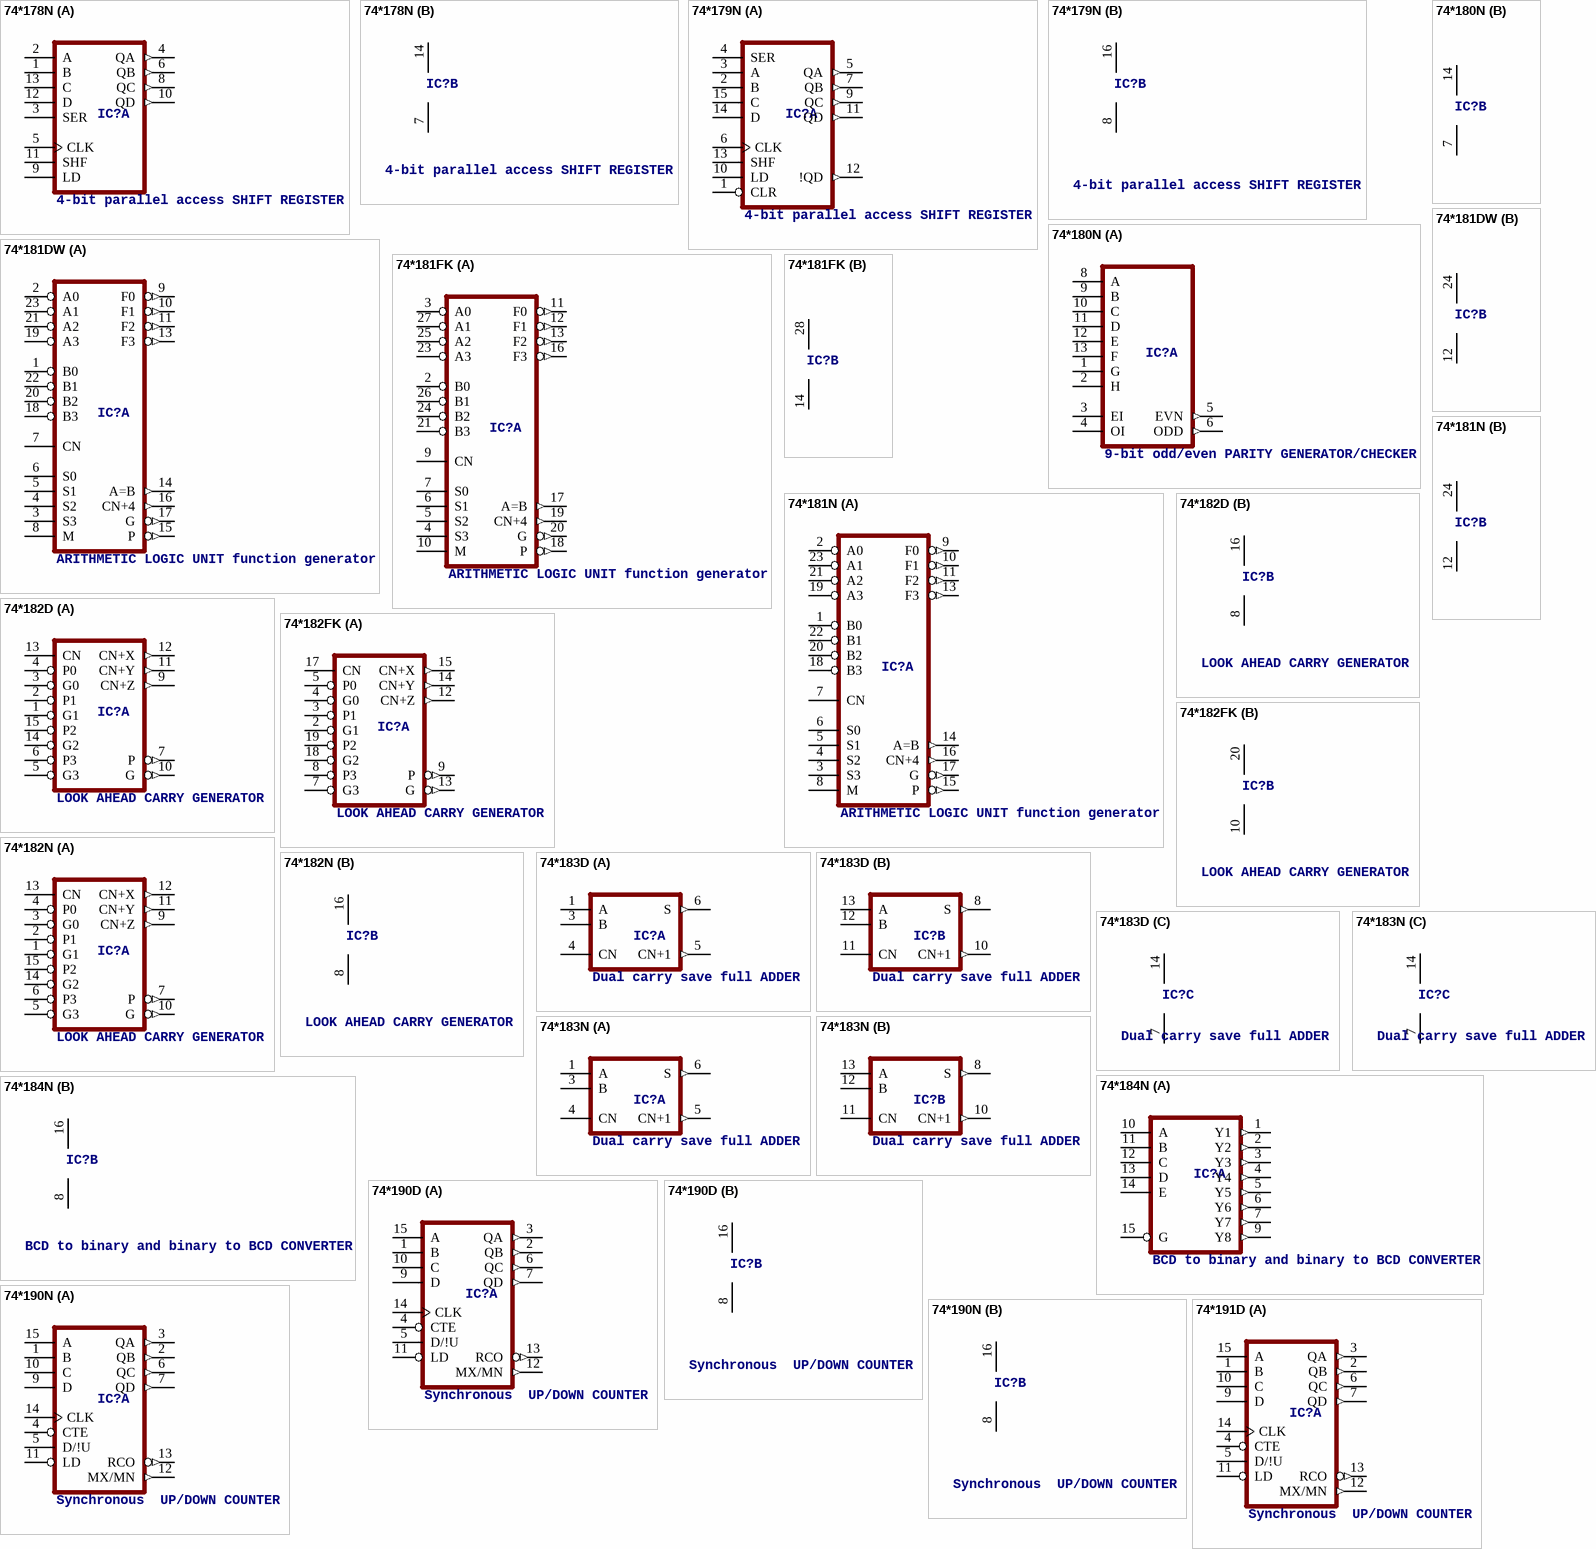
[diagram p26: symbols 74*178N to 74*191D]

## 74*178N
designator IC?, comment 4-bit parallel access SHIFT REGISTER
footprint DIL14
part A pins: 1 B, 2 A, 3 SER, 4 QA (out), 5 CLK, 6 QB (out), 8 QC (out), 9 LD, 10 QD (out), 11 SHF, 12 D, 13 C
part B pins: 7 GND (power), 14 VCC (power)

## 74*179N
designator IC?, comment 4-bit parallel access SHIFT REGISTER
footprint DIL16
part A pins: 1 CLR, 2 B, 3 A, 4 SER, 5 QA (out), 6 CLK, 7 QB (out), 9 QC (out), 10 LD, 11 QD (out), 12 !QD (out), 13 SHF, 14 D, 15 C
part B pins: 8 GND (power), 16 VCC (power)

## 74*180N
designator IC?, comment 9-bit odd/even PARITY GENERATOR/CHECKER
footprint DIL14
part A pins: 1 G, 2 H, 3 EI, 4 OI, 5 EVN (out), 6 ODD (out), 8 A, 9 B, 10 C, 11 D, 12 E, 13 F
part B pins: 7 GND (power), 14 VCC (power)

## 74*181DW
designator IC?, comment ARITHMETIC LOGIC UNIT function generator
footprint SO24W
part A pins: 1 B0, 2 A0, 3 S3, 4 S2, 5 S1, 6 S0, 7 CN, 8 M, 9 F0 (out), 10 F1 (out), 11 F2 (out), 13 F3 (out), 14 A=B (out), 15 P (out), 16 CN+4 (out), 17 G (out), 18 B3, 19 A3, 20 B2, 21 A2, 22 B1, 23 A1
part B pins: 12 GND (power), 24 VCC (power)

## 74*181FK
designator IC?, comment ARITHMETIC LOGIC UNIT function generator
footprint LCC28
part A pins: 2 B0, 3 A0, 4 S3, 5 S2, 6 S1, 7 S0, 9 CN, 10 M, 11 F0 (out), 12 F1 (out), 13 F2 (out), 16 F3 (out), 17 A=B (out), 18 P (out), 19 CN+4 (out), 20 G (out), 21 B3, 23 A3, 24 B2, 25 A2, 26 B1, 27 A1
part B pins: 14 GND (power), 28 VCC (power)

## 74*181N
designator IC?, comment ARITHMETIC LOGIC UNIT function generator
footprint DIL24-6
part A pins: 1 B0, 2 A0, 3 S3, 4 S2, 5 S1, 6 S0, 7 CN, 8 M, 9 F0 (out), 10 F1 (out), 11 F2 (out), 13 F3 (out), 14 A=B (out), 15 P (out), 16 CN+4 (out), 17 G (out), 18 B3, 19 A3, 20 B2, 21 A2, 22 B1, 23 A1
part B pins: 12 GND (power), 24 VCC (power)

## 74*182D
designator IC?, comment LOOK AHEAD CARRY GENERATOR
footprint SO16
part A pins: 1 G1, 2 P1, 3 G0, 4 P0, 5 G3, 6 P3, 7 P (out), 9 CN+Z (out), 10 G (out), 11 CN+Y (out), 12 CN+X (out), 13 CN, 14 G2, 15 P2
part B pins: 8 GND (power), 16 VCC (power)

## 74*182FK
designator IC?, comment LOOK AHEAD CARRY GENERATOR
footprint LCC20
part A pins: 2 G1, 3 P1, 4 G0, 5 P0, 7 G3, 8 P3, 9 P (out), 12 CN+Z (out), 13 G (out), 14 CN+Y (out), 15 CN+X (out), 17 CN, 18 G2, 19 P2
part B pins: 10 GND (power), 20 VCC (power)

## 74*182N
designator IC?, comment LOOK AHEAD CARRY GENERATOR
footprint DIL16
part A pins: 1 G1, 2 P1, 3 G0, 4 P0, 5 G3, 6 P3, 7 P (out), 9 CN+Z (out), 10 G (out), 11 CN+Y (out), 12 CN+X (out), 13 CN, 14 G2, 15 P2
part B pins: 8 GND (power), 16 VCC (power)

## 74*183D
designator IC?, comment Dual carry save full ADDER
footprint SO14
part A pins: 1 A, 3 B, 4 CN, 5 CN+1 (out), 6 S (out)
part B pins: 8 S (out), 10 CN+1 (out), 11 CN, 12 B, 13 A
part C pins: 7 GND (power), 14 VCC (power)

## 74*183N
designator IC?, comment Dual carry save full ADDER
footprint DIL14
part A pins: 1 A, 3 B, 4 CN, 5 CN+1 (out), 6 S (out)
part B pins: 8 S (out), 10 CN+1 (out), 11 CN, 12 B, 13 A
part C pins: 7 GND (power), 14 VCC (power)

## 74*184N
designator IC?, comment BCD to binary and binary to BCD CONVERTER
footprint DIL16
part A pins: 1 Y1 (out), 2 Y2 (out), 3 Y3 (out), 4 Y4 (out), 5 Y5 (out), 6 Y6 (out), 7 Y7 (out), 9 Y8 (out), 10 A, 11 B, 12 C, 13 D, 14 E, 15 G
part B pins: 8 GND (power), 16 VCC (power)

## 74*190D
designator IC?, comment Synchronous  UP/DOWN COUNTER
footprint SO16
part A pins: 1 B, 2 QB (out), 3 QA (out), 4 CTE, 5 D/!U, 6 QC (out), 7 QD (out), 9 D, 10 C, 11 LD, 12 MX/MN (out), 13 RCO (out), 14 CLK, 15 A
part B pins: 8 GND (power), 16 VCC (power)

## 74*190N
designator IC?, comment Synchronous  UP/DOWN COUNTER
footprint DIL16
part A pins: 1 B, 2 QB (out), 3 QA (out), 4 CTE, 5 D/!U, 6 QC (out), 7 QD (out), 9 D, 10 C, 11 LD, 12 MX/MN (out), 13 RCO (out), 14 CLK, 15 A
part B pins: 8 GND (power), 16 VCC (power)

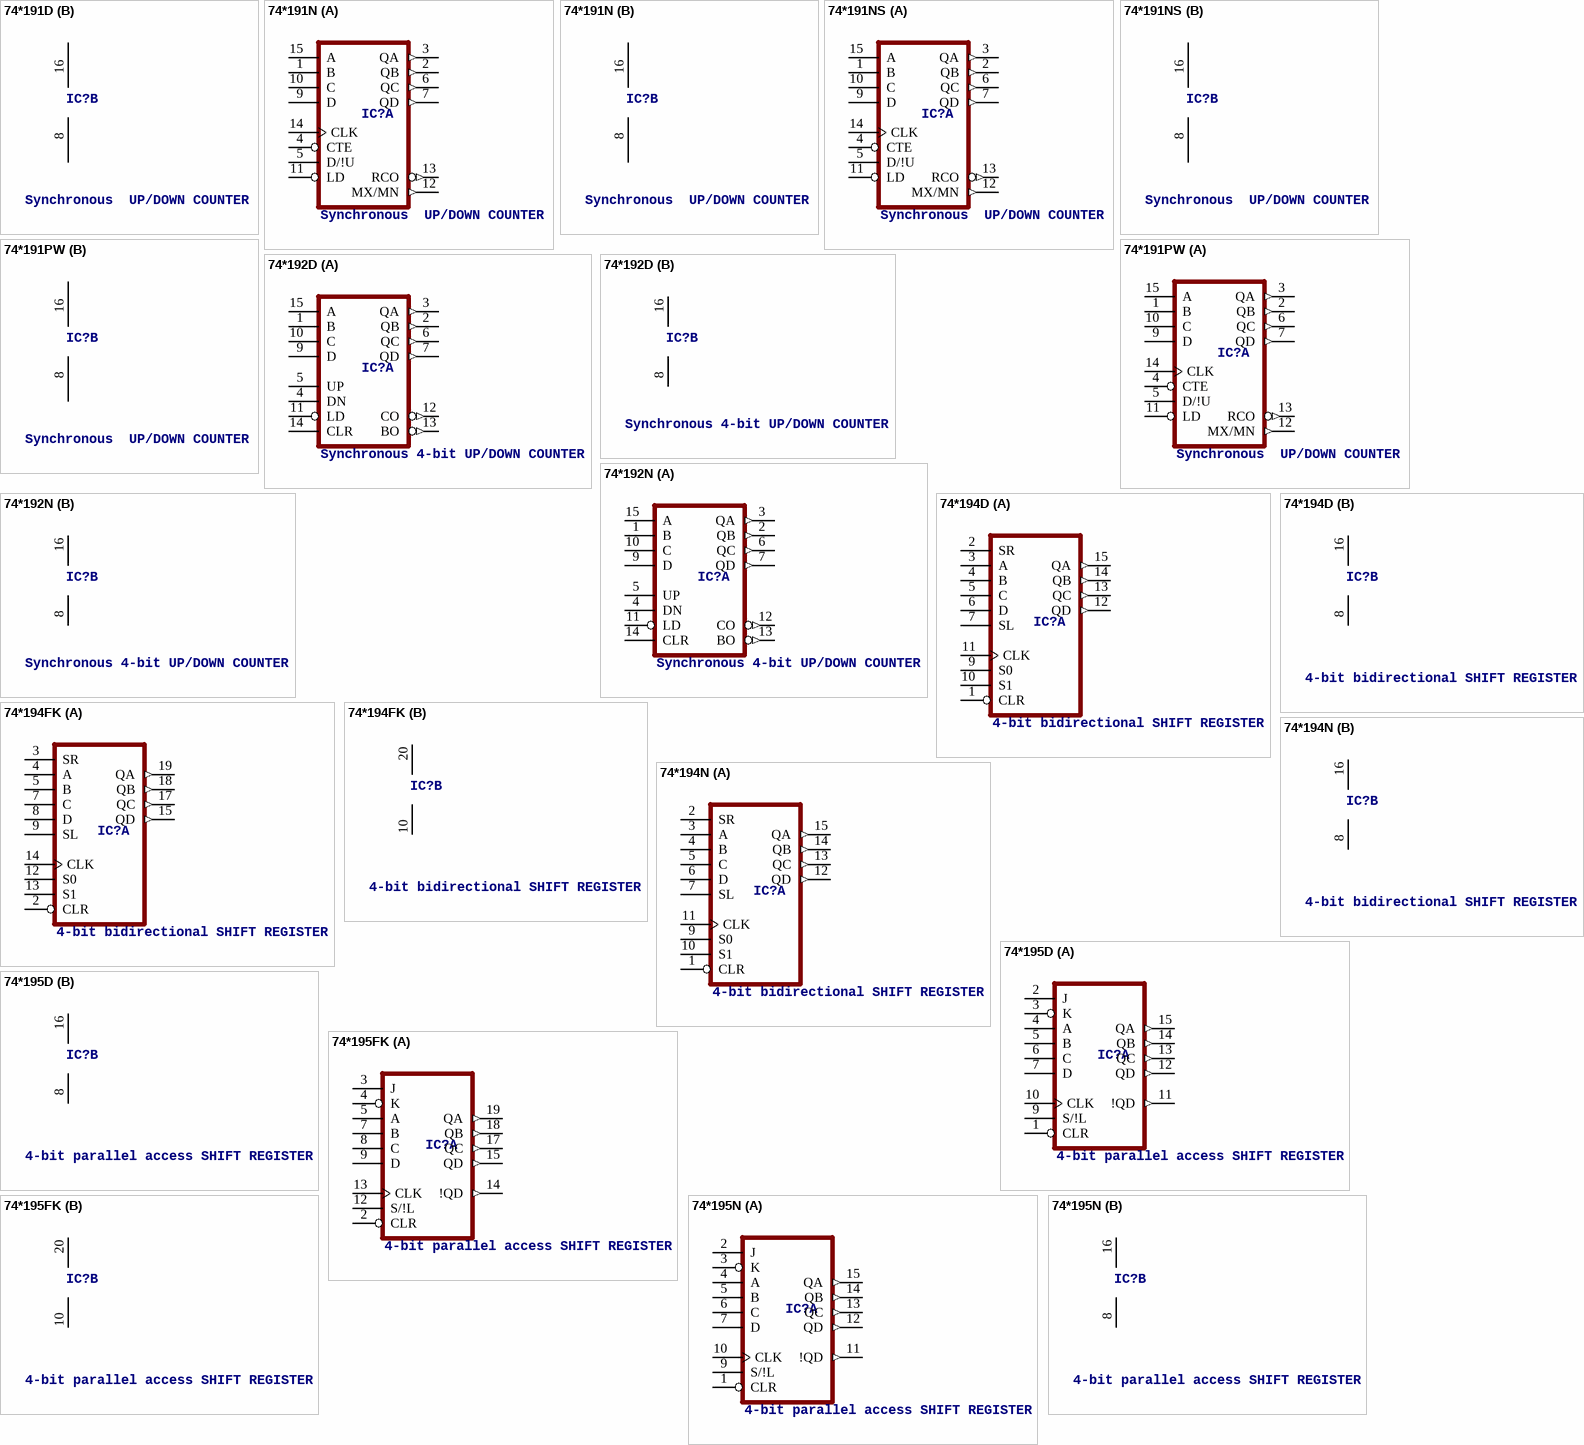
[diagram p27: symbols 74*191D to 74*195N]

## 74*191D
designator IC?, comment Synchronous  UP/DOWN COUNTER
footprint SO16D
part A pins: 1 B, 2 QB (out), 3 QA (out), 4 CTE, 5 D/!U, 6 QC (out), 7 QD (out), 9 D, 10 C, 11 LD, 12 MX/MN (out), 13 RCO (out), 14 CLK, 15 A
part B pins: 8 GND (power), 16 VCC (power)

## 74*191N
designator IC?, comment Synchronous  UP/DOWN COUNTER
footprint DIL16
part A pins: 1 B, 2 QB (out), 3 QA (out), 4 CTE, 5 D/!U, 6 QC (out), 7 QD (out), 9 D, 10 C, 11 LD, 12 MX/MN (out), 13 RCO (out), 14 CLK, 15 A
part B pins: 8 GND (power), 16 VCC (power)

## 74*191NS
designator IC?, comment Synchronous  UP/DOWN COUNTER
footprint SO16NS
part A pins: 1 B, 2 QB (out), 3 QA (out), 4 CTE, 5 D/!U, 6 QC (out), 7 QD (out), 9 D, 10 C, 11 LD, 12 MX/MN (out), 13 RCO (out), 14 CLK, 15 A
part B pins: 8 GND (power), 16 VCC (power)

## 74*191PW
designator IC?, comment Synchronous  UP/DOWN COUNTER
footprint SO16PW
part A pins: 1 B, 2 QB (out), 3 QA (out), 4 CTE, 5 D/!U, 6 QC (out), 7 QD (out), 9 D, 10 C, 11 LD, 12 MX/MN (out), 13 RCO (out), 14 CLK, 15 A
part B pins: 8 GND (power), 16 VCC (power)

## 74*192D
designator IC?, comment Synchronous 4-bit UP/DOWN COUNTER
footprint SO16
part A pins: 1 B, 2 QB (out), 3 QA (out), 4 DN, 5 UP, 6 QC (out), 7 QD (out), 9 D, 10 C, 11 LD, 12 CO (out), 13 BO (out), 14 CLR, 15 A
part B pins: 8 GND (power), 16 VCC (power)

## 74*192N
designator IC?, comment Synchronous 4-bit UP/DOWN COUNTER
footprint DIL16
part A pins: 1 B, 2 QB (out), 3 QA (out), 4 DN, 5 UP, 6 QC (out), 7 QD (out), 9 D, 10 C, 11 LD, 12 CO (out), 13 BO (out), 14 CLR, 15 A
part B pins: 8 GND (power), 16 VCC (power)

## 74*194D
designator IC?, comment 4-bit bidirectional SHIFT REGISTER
footprint SO16
part A pins: 1 CLR, 2 SR, 3 A, 4 B, 5 C, 6 D, 7 SL, 9 S0, 10 S1, 11 CLK, 12 QD (out), 13 QC (out), 14 QB (out), 15 QA (out)
part B pins: 8 GND (power), 16 VCC (power)

## 74*194FK
designator IC?, comment 4-bit bidirectional SHIFT REGISTER
footprint LCC20
part A pins: 2 CLR, 3 SR, 4 A, 5 B, 7 C, 8 D, 9 SL, 12 S0, 13 S1, 14 CLK, 15 QD (out), 17 QC (out), 18 QB (out), 19 QA (out)
part B pins: 10 GND (power), 20 VCC (power)

## 74*194N
designator IC?, comment 4-bit bidirectional SHIFT REGISTER
footprint DIL16
part A pins: 1 CLR, 2 SR, 3 A, 4 B, 5 C, 6 D, 7 SL, 9 S0, 10 S1, 11 CLK, 12 QD (out), 13 QC (out), 14 QB (out), 15 QA (out)
part B pins: 8 GND (power), 16 VCC (power)

## 74*195D
designator IC?, comment 4-bit parallel access SHIFT REGISTER
footprint SO16
part A pins: 1 CLR, 2 J, 3 K, 4 A, 5 B, 6 C, 7 D, 9 S/!L, 10 CLK, 11 !QD (out), 12 QD (out), 13 QC (out), 14 QB (out), 15 QA (out)
part B pins: 8 GND (power), 16 VCC (power)

## 74*195FK
designator IC?, comment 4-bit parallel access SHIFT REGISTER
footprint LCC20
part A pins: 2 CLR, 3 J, 4 K, 5 A, 7 B, 8 C, 9 D, 12 S/!L, 13 CLK, 14 !QD (out), 15 QD (out), 17 QC (out), 18 QB (out), 19 QA (out)
part B pins: 10 GND (power), 20 VCC (power)

## 74*195N
designator IC?, comment 4-bit parallel access SHIFT REGISTER
footprint DIL16
part A pins: 1 CLR, 2 J, 3 K, 4 A, 5 B, 6 C, 7 D, 9 S/!L, 10 CLK, 11 !QD (out), 12 QD (out), 13 QC (out), 14 QB (out), 15 QA (out)
part B pins: 8 GND (power), 16 VCC (power)

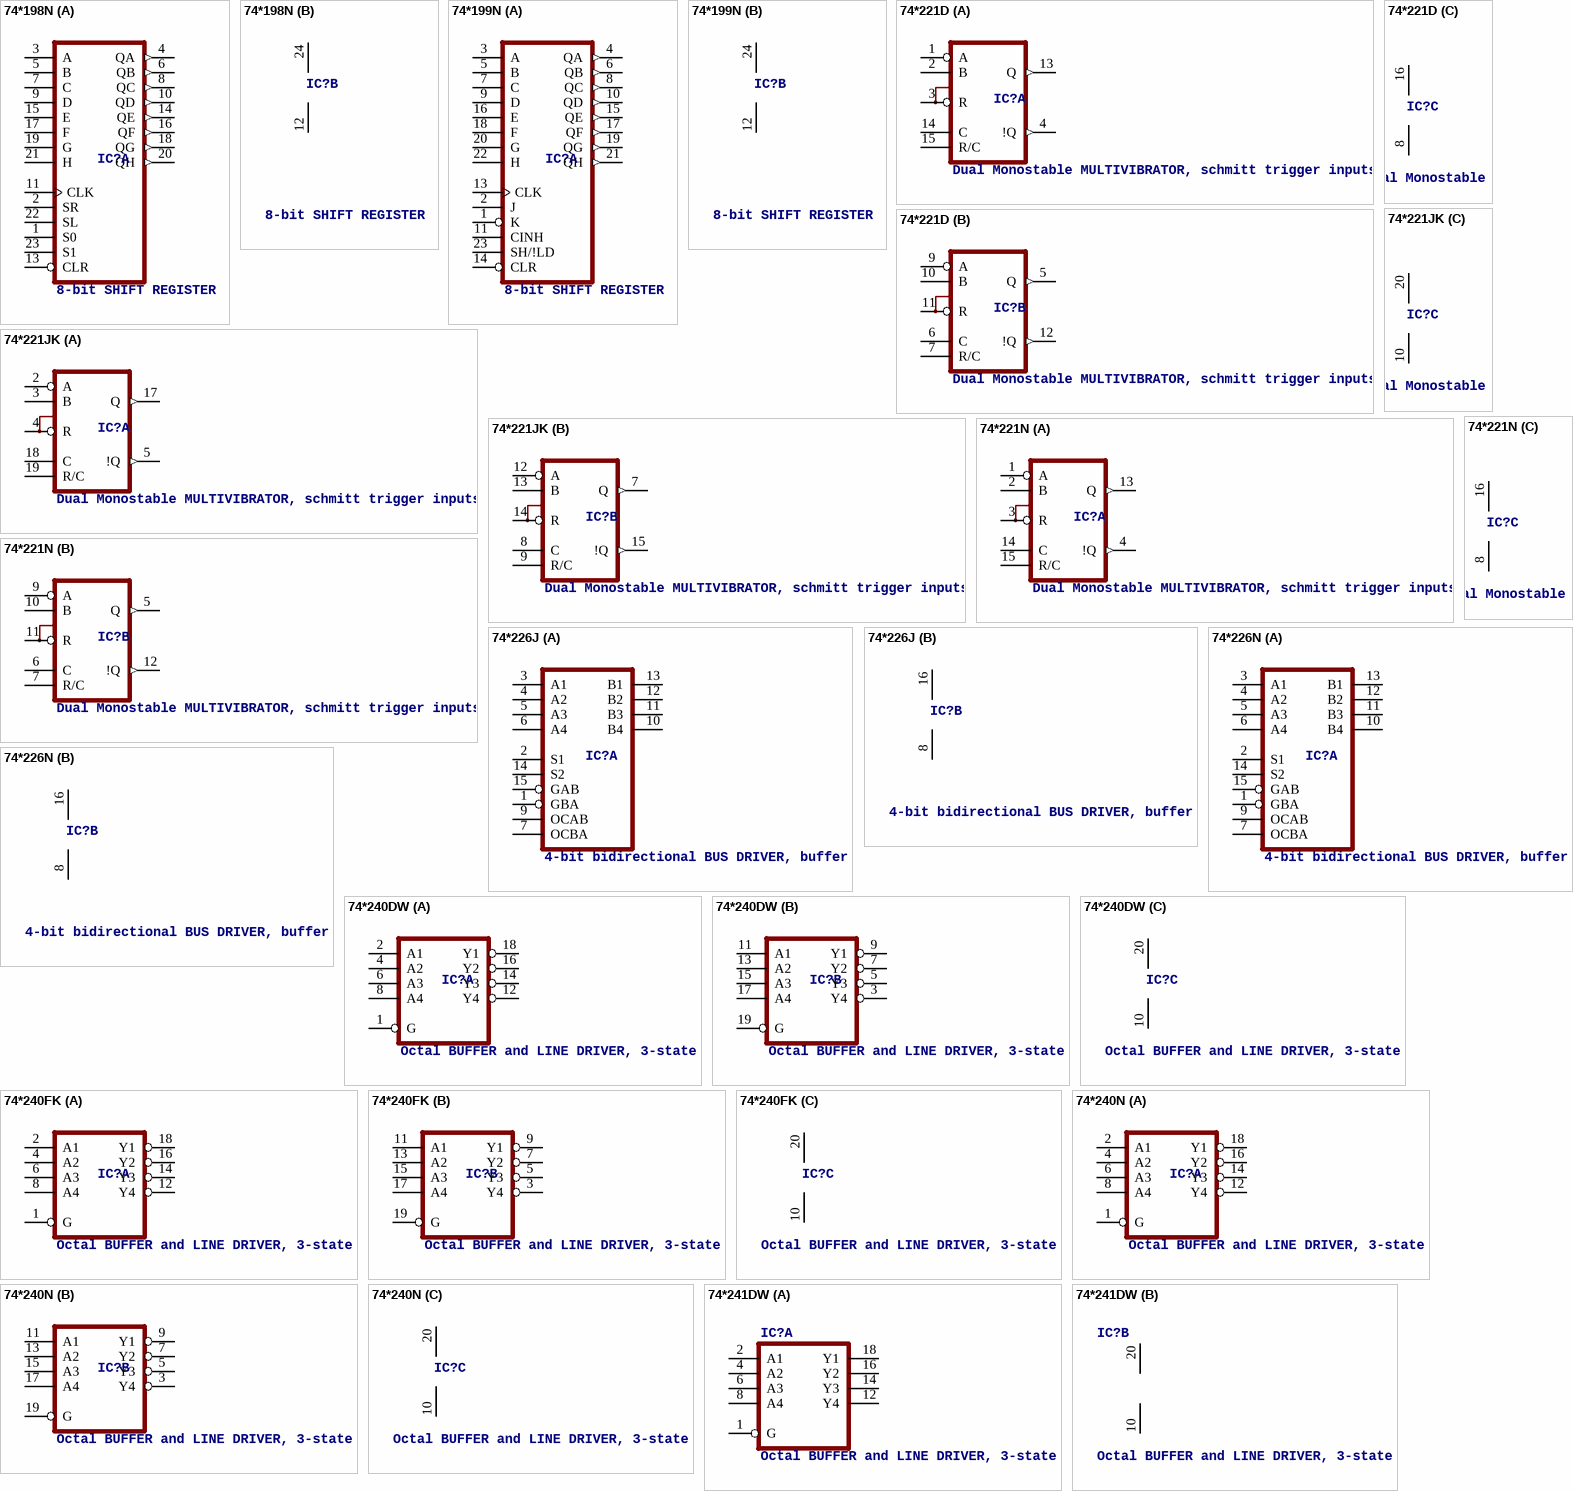
[diagram p28: symbols 74*198N to 74*241DW]

## 74*198N
designator IC?, comment 8-bit SHIFT REGISTER
footprint DIL24-6
part A pins: 1 S0, 2 SR, 3 A, 4 QA (out), 5 B, 6 QB (out), 7 C, 8 QC (out), 9 D, 10 QD (out), 11 CLK, 13 CLR, 14 QE (out), 15 E, 16 QF (out), 17 F, 18 QG (out), 19 G, 20 QH (out), 21 H, 22 SL, 23 S1
part B pins: 12 GND (power), 24 VCC (power)

## 74*199N
designator IC?, comment 8-bit SHIFT REGISTER
footprint DIL24-6
part A pins: 1 K, 2 J, 3 A, 4 QA (out), 5 B, 6 QB (out), 7 C, 8 QC (out), 9 D, 10 QD (out), 11 CINH, 13 CLK, 14 CLR, 15 QE (out), 16 E, 17 QF (out), 18 F, 19 QG (out), 20 G, 21 QH (out), 22 H, 23 SH/!LD
part B pins: 12 GND (power), 24 VCC (power)

## 74*221D
designator IC?, comment Dual Monostable MULTIVIBRATOR, schmitt trigger inputs
footprint SO16
part A pins: 1 A, 2 B, 3 R, 4 !Q (out), 13 Q (out), 14 C, 15 R/C
part B pins: 5 Q (out), 6 C, 7 R/C, 9 A, 10 B, 11 R, 12 !Q (out)
part C pins: 8 GND (power), 16 VCC (power)

## 74*221JK
designator IC?, comment Dual Monostable MULTIVIBRATOR, schmitt trigger inputs
footprint PLCC20
part A pins: 2 A, 3 B, 4 R, 5 !Q (out), 17 Q (out), 18 C, 19 R/C
part B pins: 7 Q (out), 8 C, 9 R/C, 12 A, 13 B, 14 R, 15 !Q (out)
part C pins: 10 GND (power), 20 VCC (power)

## 74*221N
designator IC?, comment Dual Monostable MULTIVIBRATOR, schmitt trigger inputs
footprint DIL16
part A pins: 1 A, 2 B, 3 R, 4 !Q (out), 13 Q (out), 14 C, 15 R/C
part B pins: 5 Q (out), 6 C, 7 R/C, 9 A, 10 B, 11 R, 12 !Q (out)
part C pins: 8 GND (power), 16 VCC (power)

## 74*226J
designator IC?, comment 4-bit bidirectional BUS DRIVER, buffer
footprint SO16
part A pins: 1 GBA, 2 S1, 3 A1 (hiz), 4 A2 (hiz), 5 A3 (hiz), 6 A4 (hiz), 7 OCBA, 9 OCAB, 10 B4 (hiz), 11 B3 (hiz), 12 B2 (hiz), 13 B1 (hiz), 14 S2, 15 GAB
part B pins: 8 GND (power), 16 VCC (power)

## 74*226N
designator IC?, comment 4-bit bidirectional BUS DRIVER, buffer
footprint DIL16
part A pins: 1 GBA, 2 S1, 3 A1 (hiz), 4 A2 (hiz), 5 A3 (hiz), 6 A4 (hiz), 7 OCBA, 9 OCAB, 10 B4 (hiz), 11 B3 (hiz), 12 B2 (hiz), 13 B1 (hiz), 14 S2, 15 GAB
part B pins: 8 GND (power), 16 VCC (power)

## 74*240DW
designator IC?, comment Octal BUFFER and LINE DRIVER, 3-state
footprint SO20W
part A pins: 1 G, 2 A1, 4 A2, 6 A3, 8 A4, 12 Y4 (hiz), 14 Y3 (hiz), 16 Y2 (hiz), 18 Y1 (hiz)
part B pins: 3 Y4 (hiz), 5 Y3 (hiz), 7 Y2 (hiz), 9 Y1 (hiz), 11 A1, 13 A2, 15 A3, 17 A4, 19 G
part C pins: 10 GND (power), 20 VCC (power)

## 74*240FK
designator IC?, comment Octal BUFFER and LINE DRIVER, 3-state
footprint LCC20
part A pins: 1 G, 2 A1, 4 A2, 6 A3, 8 A4, 12 Y4 (hiz), 14 Y3 (hiz), 16 Y2 (hiz), 18 Y1 (hiz)
part B pins: 3 Y4 (hiz), 5 Y3 (hiz), 7 Y2 (hiz), 9 Y1 (hiz), 11 A1, 13 A2, 15 A3, 17 A4, 19 G
part C pins: 10 GND (power), 20 VCC (power)

## 74*240N
designator IC?, comment Octal BUFFER and LINE DRIVER, 3-state
footprint DIL20
part A pins: 1 G, 2 A1, 4 A2, 6 A3, 8 A4, 12 Y4 (hiz), 14 Y3 (hiz), 16 Y2 (hiz), 18 Y1 (hiz)
part B pins: 3 Y4 (hiz), 5 Y3 (hiz), 7 Y2 (hiz), 9 Y1 (hiz), 11 A1, 13 A2, 15 A3, 17 A4, 19 G
part C pins: 10 GND (power), 20 VCC (power)

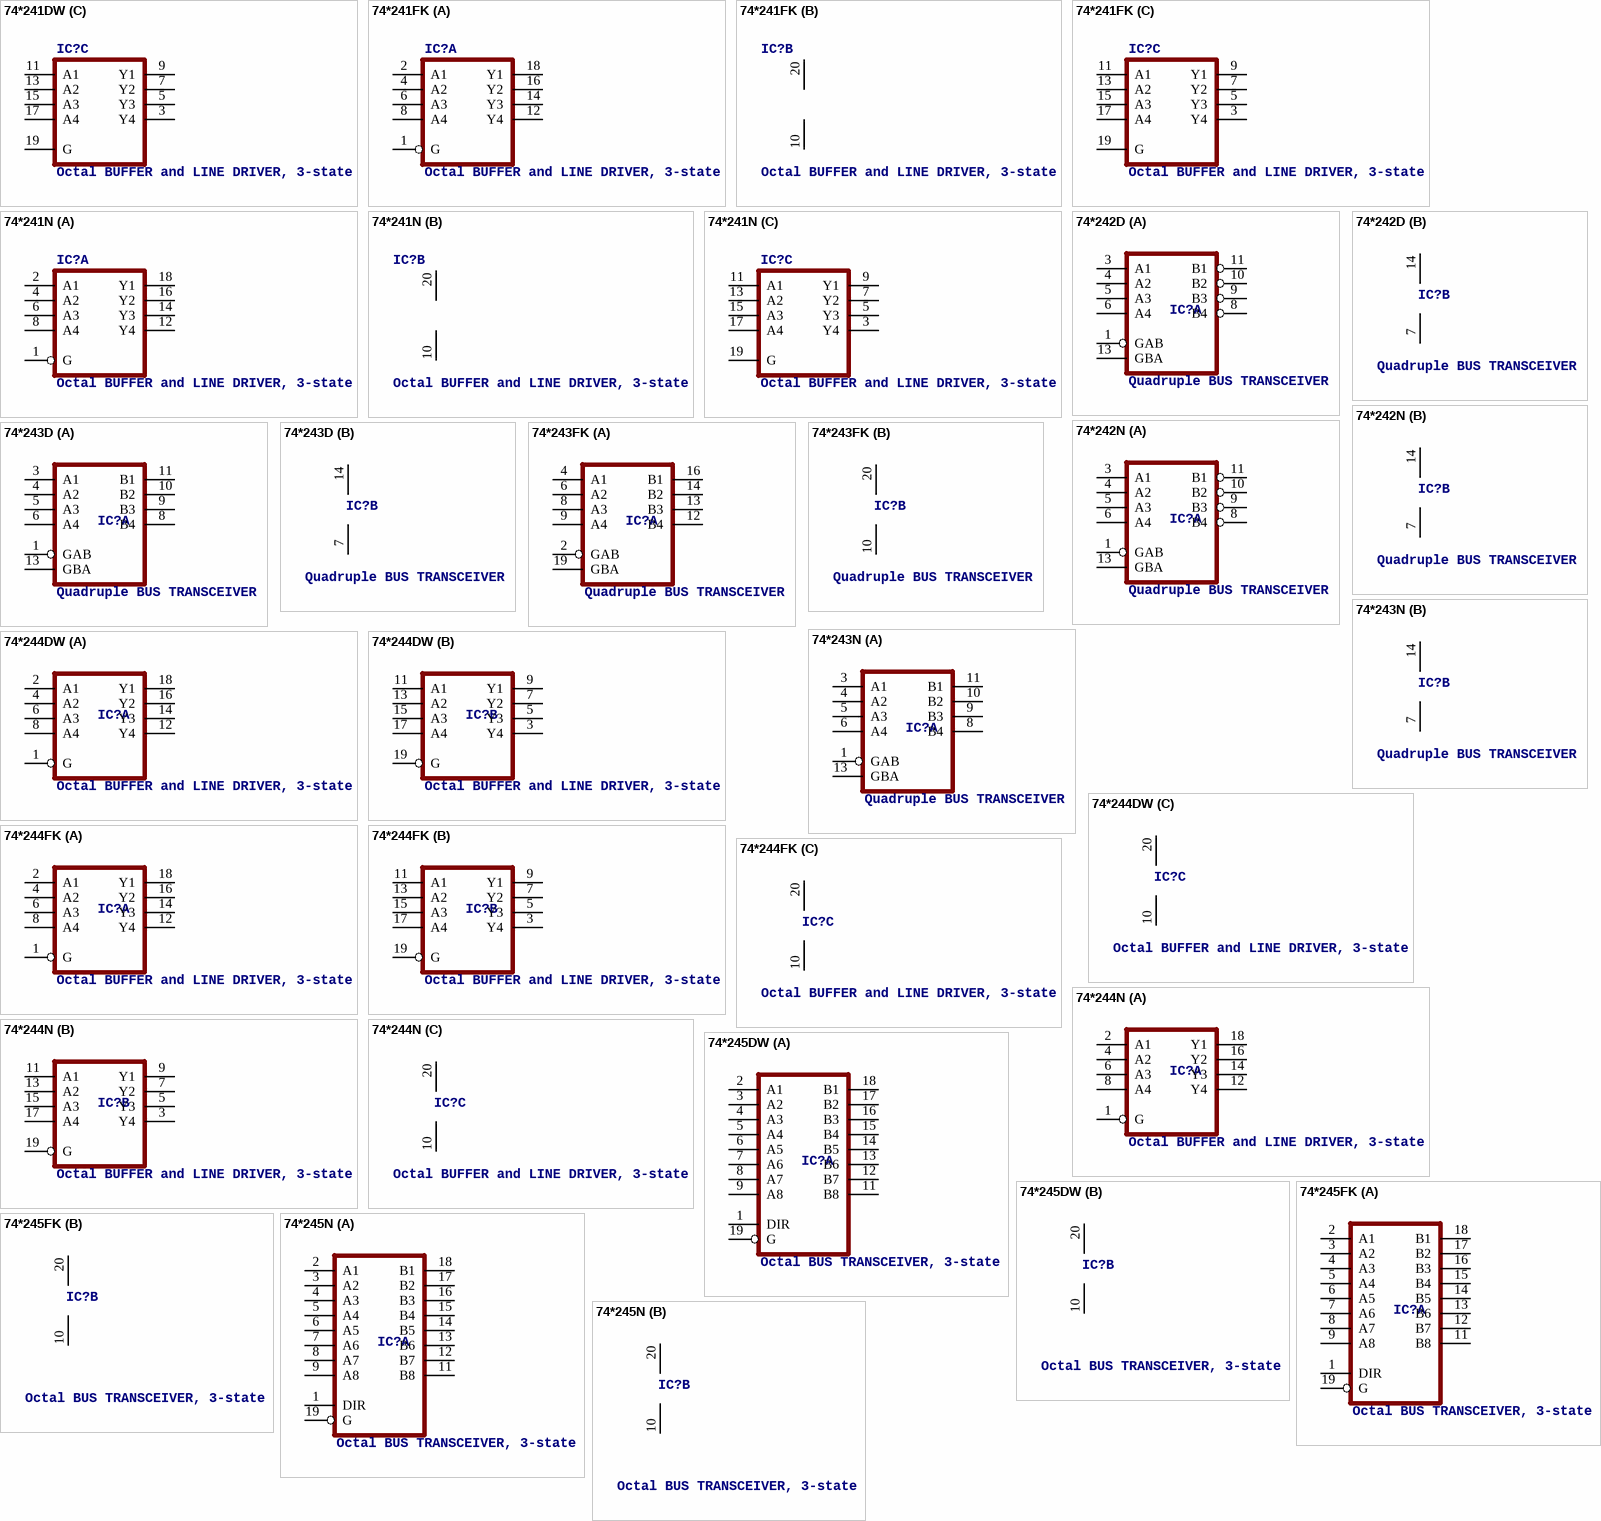
[diagram p29: symbols 74*241DW to 74*245N]

## 74*241DW
designator IC?, comment Octal BUFFER and LINE DRIVER, 3-state
footprint SO20W
part A pins: 1 G, 2 A1, 4 A2, 6 A3, 8 A4, 12 Y4 (hiz), 14 Y3 (hiz), 16 Y2 (hiz), 18 Y1 (hiz)
part B pins: 10 GND (power), 20 VCC (power)
part C pins: 3 Y4 (hiz), 5 Y3 (hiz), 7 Y2 (hiz), 9 Y1 (hiz), 11 A1, 13 A2, 15 A3, 17 A4, 19 G

## 74*241FK
designator IC?, comment Octal BUFFER and LINE DRIVER, 3-state
footprint LCC20
part A pins: 1 G, 2 A1, 4 A2, 6 A3, 8 A4, 12 Y4 (hiz), 14 Y3 (hiz), 16 Y2 (hiz), 18 Y1 (hiz)
part B pins: 10 GND (power), 20 VCC (power)
part C pins: 3 Y4 (hiz), 5 Y3 (hiz), 7 Y2 (hiz), 9 Y1 (hiz), 11 A1, 13 A2, 15 A3, 17 A4, 19 G

## 74*241N
designator IC?, comment Octal BUFFER and LINE DRIVER, 3-state
footprint DIL20
part A pins: 1 G, 2 A1, 4 A2, 6 A3, 8 A4, 12 Y4 (hiz), 14 Y3 (hiz), 16 Y2 (hiz), 18 Y1 (hiz)
part B pins: 10 GND (power), 20 VCC (power)
part C pins: 3 Y4 (hiz), 5 Y3 (hiz), 7 Y2 (hiz), 9 Y1 (hiz), 11 A1, 13 A2, 15 A3, 17 A4, 19 G

## 74*242D
designator IC?, comment Quadruple BUS TRANSCEIVER
footprint SO14
part A pins: 1 GAB, 3 A1, 4 A2, 5 A3, 6 A4, 8 B4, 9 B3, 10 B2, 11 B1, 13 GBA
part B pins: 7 GND (power), 14 VCC (power)

## 74*242N
designator IC?, comment Quadruple BUS TRANSCEIVER
footprint DIL14
part A pins: 1 GAB, 3 A1, 4 A2, 5 A3, 6 A4, 8 B4, 9 B3, 10 B2, 11 B1, 13 GBA
part B pins: 7 GND (power), 14 VCC (power)

## 74*243D
designator IC?, comment Quadruple BUS TRANSCEIVER
footprint SO14
part A pins: 1 GAB, 3 A1, 4 A2, 5 A3, 6 A4, 8 B4, 9 B3, 10 B2, 11 B1, 13 GBA
part B pins: 7 GND (power), 14 VCC (power)

## 74*243FK
designator IC?, comment Quadruple BUS TRANSCEIVER
footprint LCC20
part A pins: 2 GAB, 4 A1, 6 A2, 8 A3, 9 A4, 12 B4, 13 B3, 14 B2, 16 B1, 19 GBA
part B pins: 10 GND (power), 20 VCC (power)

## 74*243N
designator IC?, comment Quadruple BUS TRANSCEIVER
footprint DIL14
part A pins: 1 GAB, 3 A1, 4 A2, 5 A3, 6 A4, 8 B4, 9 B3, 10 B2, 11 B1, 13 GBA
part B pins: 7 GND (power), 14 VCC (power)

## 74*244DW
designator IC?, comment Octal BUFFER and LINE DRIVER, 3-state
footprint SO20W
part A pins: 1 G, 2 A1, 4 A2, 6 A3, 8 A4, 12 Y4 (hiz), 14 Y3 (hiz), 16 Y2 (hiz), 18 Y1 (hiz)
part B pins: 3 Y4 (hiz), 5 Y3 (hiz), 7 Y2 (hiz), 9 Y1 (hiz), 11 A1, 13 A2, 15 A3, 17 A4, 19 G
part C pins: 10 GND (power), 20 VCC (power)

## 74*244FK
designator IC?, comment Octal BUFFER and LINE DRIVER, 3-state
footprint LCC20
part A pins: 1 G, 2 A1, 4 A2, 6 A3, 8 A4, 12 Y4 (hiz), 14 Y3 (hiz), 16 Y2 (hiz), 18 Y1 (hiz)
part B pins: 3 Y4 (hiz), 5 Y3 (hiz), 7 Y2 (hiz), 9 Y1 (hiz), 11 A1, 13 A2, 15 A3, 17 A4, 19 G
part C pins: 10 GND (power), 20 VCC (power)

## 74*244N
designator IC?, comment Octal BUFFER and LINE DRIVER, 3-state
footprint DIL20
part A pins: 1 G, 2 A1, 4 A2, 6 A3, 8 A4, 12 Y4 (hiz), 14 Y3 (hiz), 16 Y2 (hiz), 18 Y1 (hiz)
part B pins: 3 Y4 (hiz), 5 Y3 (hiz), 7 Y2 (hiz), 9 Y1 (hiz), 11 A1, 13 A2, 15 A3, 17 A4, 19 G
part C pins: 10 GND (power), 20 VCC (power)

## 74*245DW
designator IC?, comment Octal BUS TRANSCEIVER, 3-state
footprint SO20W
part A pins: 1 DIR, 2 A1, 3 A2, 4 A3, 5 A4, 6 A5, 7 A6, 8 A7, 9 A8, 11 B8, 12 B7, 13 B6, 14 B5, 15 B4, 16 B3, 17 B2, 18 B1, 19 G
part B pins: 10 GND (power), 20 VCC (power)

## 74*245FK
designator IC?, comment Octal BUS TRANSCEIVER, 3-state
footprint LCC20
part A pins: 1 DIR, 2 A1, 3 A2, 4 A3, 5 A4, 6 A5, 7 A6, 8 A7, 9 A8, 11 B8, 12 B7, 13 B6, 14 B5, 15 B4, 16 B3, 17 B2, 18 B1, 19 G
part B pins: 10 GND (power), 20 VCC (power)

## 74*245N
designator IC?, comment Octal BUS TRANSCEIVER, 3-state
footprint DIL20
part A pins: 1 DIR, 2 A1, 3 A2, 4 A3, 5 A4, 6 A5, 7 A6, 8 A7, 9 A8, 11 B8, 12 B7, 13 B6, 14 B5, 15 B4, 16 B3, 17 B2, 18 B1, 19 G
part B pins: 10 GND (power), 20 VCC (power)

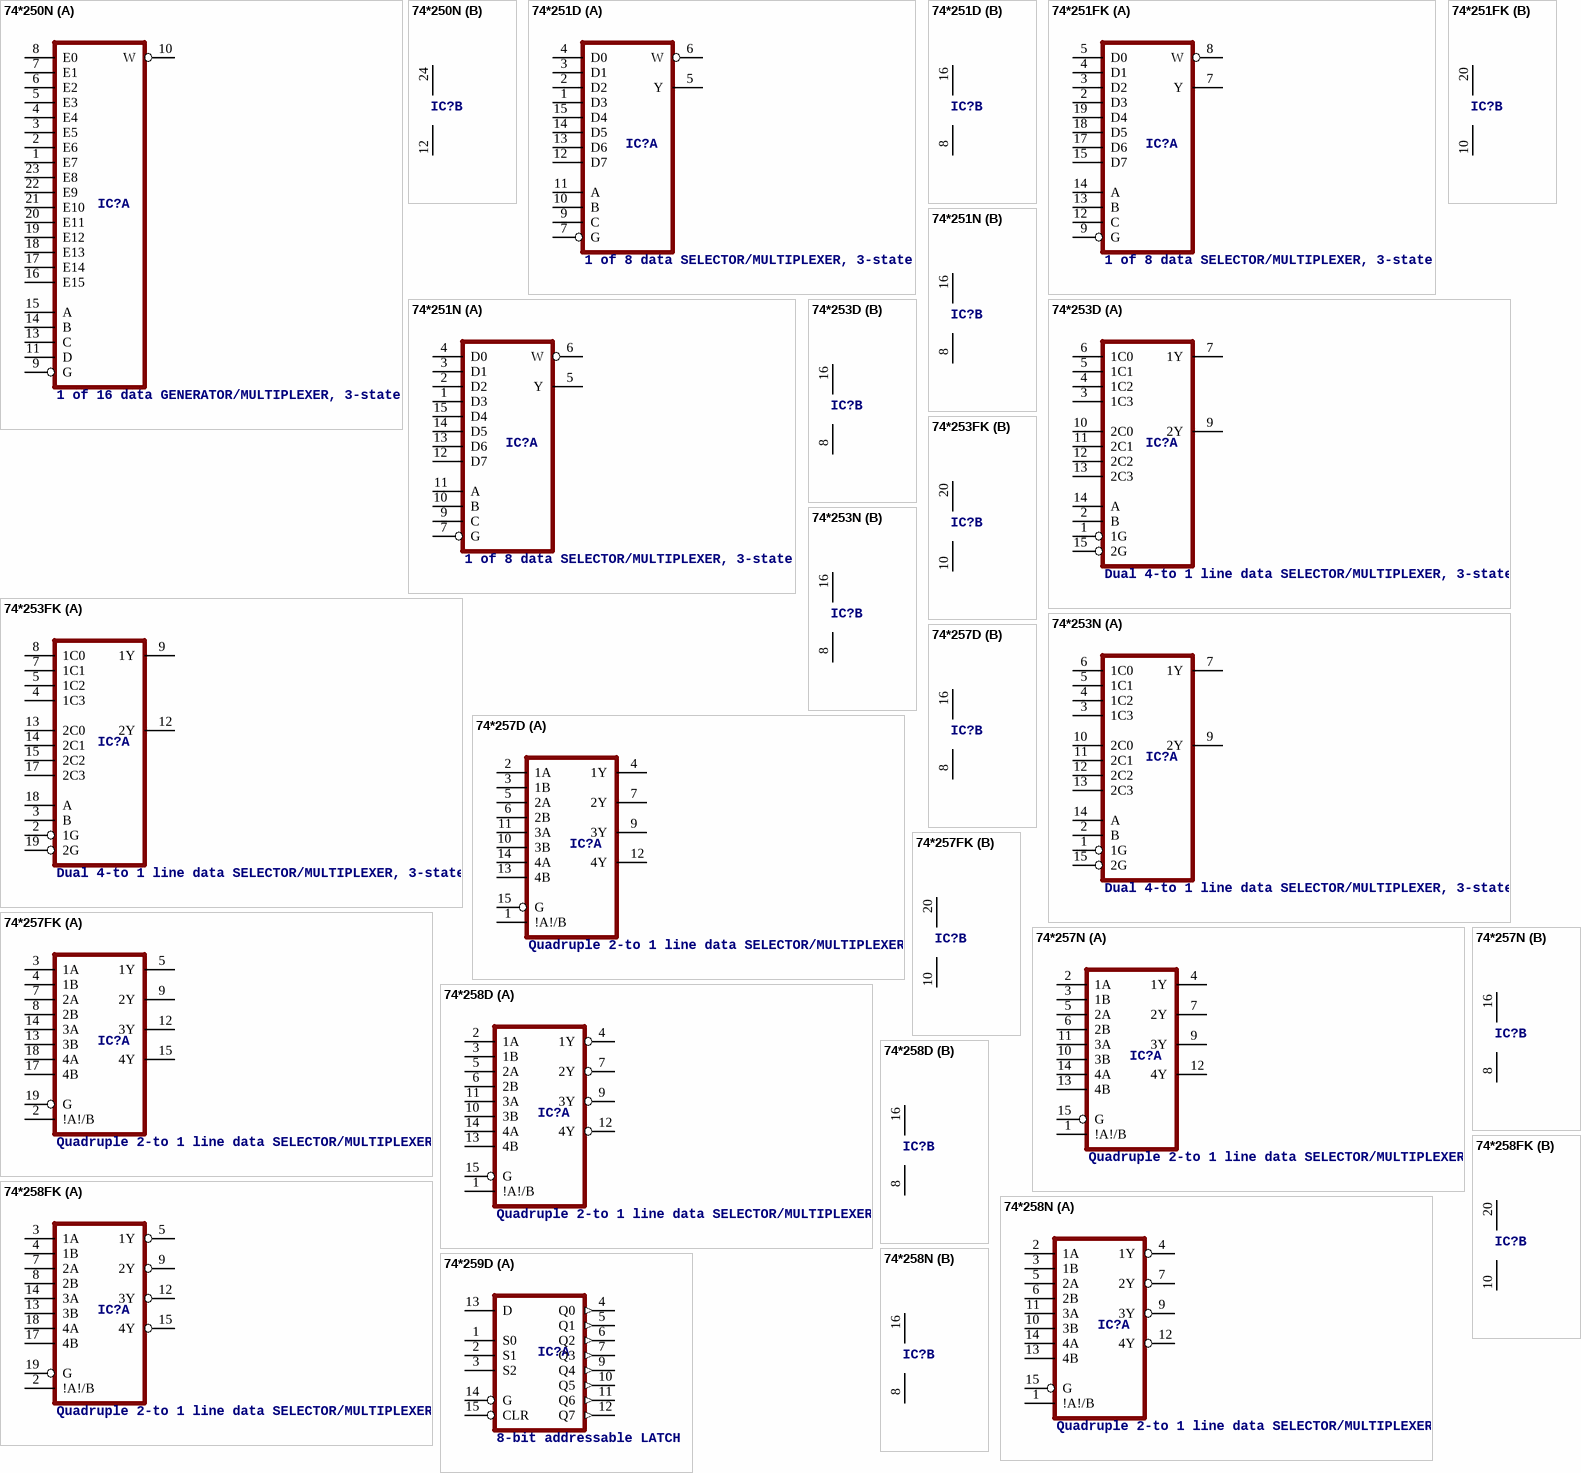
[diagram p30: symbols 74*250N to 74*259D]

## 74*250N
designator IC?, comment 1 of 16 data GENERATOR/MULTIPLEXER, 3-state
footprint DIL24-6
part A pins: 1 E7, 2 E6, 3 E5, 4 E4, 5 E3, 6 E2, 7 E1, 8 E0, 9 G, 10 W (hiz), 11 D, 13 C, 14 B, 15 A, 16 E15, 17 E14, 18 E13, 19 E12, 20 E11, 21 E10, 22 E9, 23 E8
part B pins: 12 GND (power), 24 VCC (power)

## 74*251D
designator IC?, comment 1 of 8 data SELECTOR/MULTIPLEXER, 3-state
footprint SO16
part A pins: 1 D3, 2 D2, 3 D1, 4 D0, 5 Y (hiz), 6 W (hiz), 7 G, 9 C, 10 B, 11 A, 12 D7, 13 D6, 14 D5, 15 D4
part B pins: 8 GND (power), 16 VCC (power)

## 74*251FK
designator IC?, comment 1 of 8 data SELECTOR/MULTIPLEXER, 3-state
footprint LCC20
part A pins: 2 D3, 3 D2, 4 D1, 5 D0, 7 Y (hiz), 8 W (hiz), 9 G, 12 C, 13 B, 14 A, 15 D7, 17 D6, 18 D5, 19 D4
part B pins: 10 GND (power), 20 VCC (power)

## 74*251N
designator IC?, comment 1 of 8 data SELECTOR/MULTIPLEXER, 3-state
footprint DIL16
part A pins: 1 D3, 2 D2, 3 D1, 4 D0, 5 Y (hiz), 6 W (hiz), 7 G, 9 C, 10 B, 11 A, 12 D7, 13 D6, 14 D5, 15 D4
part B pins: 8 GND (power), 16 VCC (power)

## 74*253D
designator IC?, comment Dual 4-to 1 line data SELECTOR/MULTIPLEXER, 3-state
footprint SO16
part A pins: 1 1G, 2 B, 3 1C3, 4 1C2, 5 1C1, 6 1C0, 7 1Y (hiz), 9 2Y (hiz), 10 2C0, 11 2C1, 12 2C2, 13 2C3, 14 A, 15 2G
part B pins: 8 GND (power), 16 VCC (power)

## 74*253FK
designator IC?, comment Dual 4-to 1 line data SELECTOR/MULTIPLEXER, 3-state
footprint LCC20
part A pins: 2 1G, 3 B, 4 1C3, 5 1C2, 7 1C1, 8 1C0, 9 1Y (hiz), 12 2Y (hiz), 13 2C0, 14 2C1, 15 2C2, 17 2C3, 18 A, 19 2G
part B pins: 10 GND (power), 20 VCC (power)

## 74*253N
designator IC?, comment Dual 4-to 1 line data SELECTOR/MULTIPLEXER, 3-state
footprint DIL16
part A pins: 1 1G, 2 B, 3 1C3, 4 1C2, 5 1C1, 6 1C0, 7 1Y (hiz), 9 2Y (hiz), 10 2C0, 11 2C1, 12 2C2, 13 2C3, 14 A, 15 2G
part B pins: 8 GND (power), 16 VCC (power)

## 74*257D
designator IC?, comment Quadruple 2-to 1 line data SELECTOR/MULTIPLEXER
footprint SO16
part A pins: 1 !A!/B, 2 1A, 3 1B, 4 1Y (hiz), 5 2A, 6 2B, 7 2Y (hiz), 9 3Y (hiz), 10 3B, 11 3A, 12 4Y (hiz), 13 4B, 14 4A, 15 G
part B pins: 8 GND (power), 16 VCC (power)

## 74*257FK
designator IC?, comment Quadruple 2-to 1 line data SELECTOR/MULTIPLEXER
footprint LCC20
part A pins: 2 !A!/B, 3 1A, 4 1B, 5 1Y (hiz), 7 2A, 8 2B, 9 2Y (hiz), 12 3Y (hiz), 13 3B, 14 3A, 15 4Y (hiz), 17 4B, 18 4A, 19 G
part B pins: 10 GND (power), 20 VCC (power)

## 74*257N
designator IC?, comment Quadruple 2-to 1 line data SELECTOR/MULTIPLEXER
footprint DIL16
part A pins: 1 !A!/B, 2 1A, 3 1B, 4 1Y (hiz), 5 2A, 6 2B, 7 2Y (hiz), 9 3Y (hiz), 10 3B, 11 3A, 12 4Y (hiz), 13 4B, 14 4A, 15 G
part B pins: 8 GND (power), 16 VCC (power)

## 74*258D
designator IC?, comment Quadruple 2-to 1 line data SELECTOR/MULTIPLEXER
footprint SO16
part A pins: 1 !A!/B, 2 1A, 3 1B, 4 1Y (hiz), 5 2A, 6 2B, 7 2Y (hiz), 9 3Y (hiz), 10 3B, 11 3A, 12 4Y (hiz), 13 4B, 14 4A, 15 G
part B pins: 8 GND (power), 16 VCC (power)

## 74*258FK
designator IC?, comment Quadruple 2-to 1 line data SELECTOR/MULTIPLEXER
footprint LCC20
part A pins: 2 !A!/B, 3 1A, 4 1B, 5 1Y (hiz), 7 2A, 8 2B, 9 2Y (hiz), 12 3Y (hiz), 13 3B, 14 3A, 15 4Y (hiz), 17 4B, 18 4A, 19 G
part B pins: 10 GND (power), 20 VCC (power)

## 74*258N
designator IC?, comment Quadruple 2-to 1 line data SELECTOR/MULTIPLEXER
footprint DIL16
part A pins: 1 !A!/B, 2 1A, 3 1B, 4 1Y (hiz), 5 2A, 6 2B, 7 2Y (hiz), 9 3Y (hiz), 10 3B, 11 3A, 12 4Y (hiz), 13 4B, 14 4A, 15 G
part B pins: 8 GND (power), 16 VCC (power)

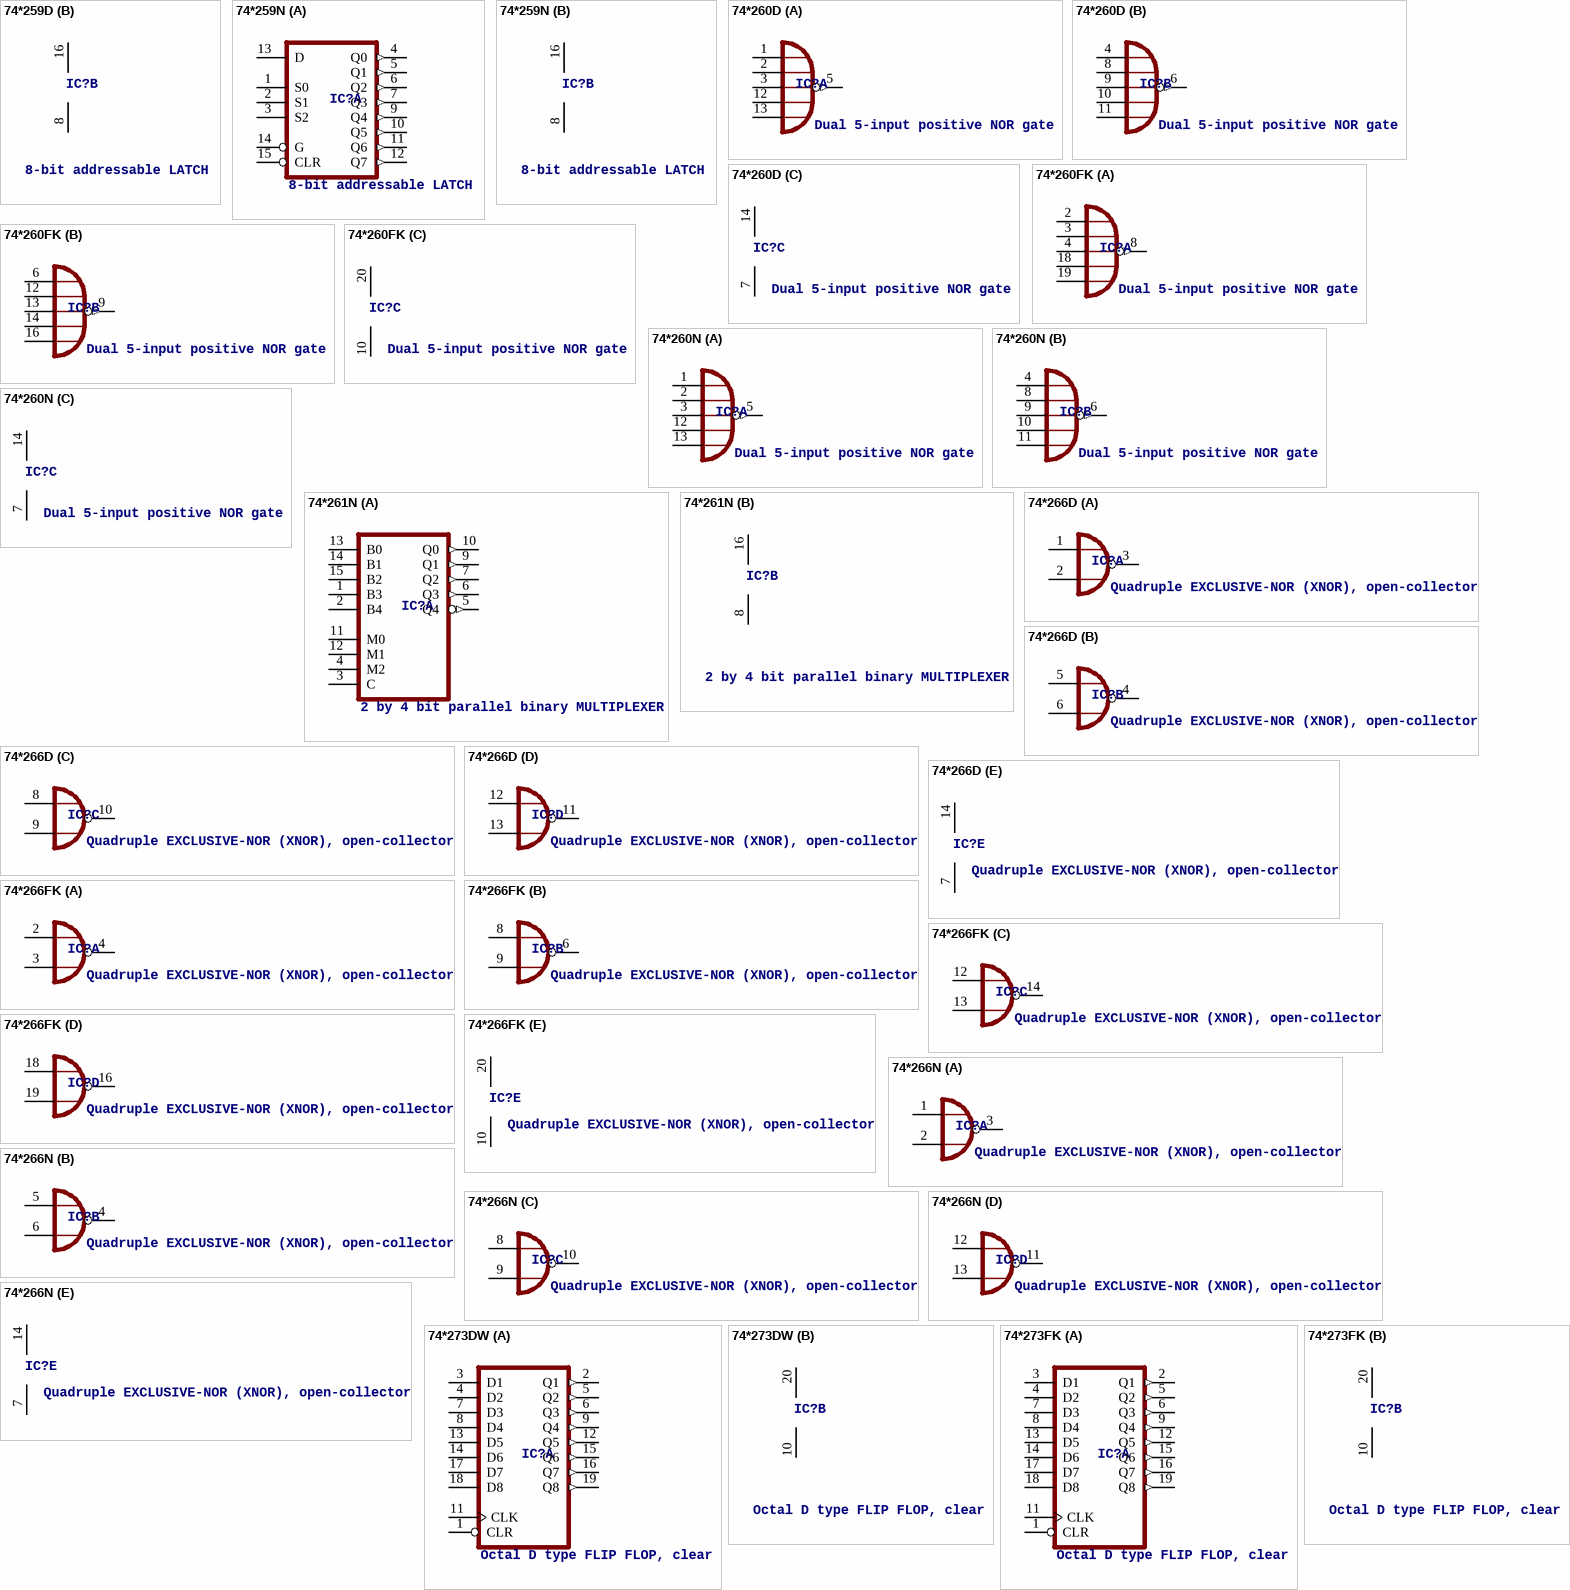
[diagram p31: symbols 74*259D to 74*273FK]

## 74*259D
designator IC?, comment 8-bit addressable LATCH
footprint SO16
part A pins: 1 S0, 2 S1, 3 S2, 4 Q0 (out), 5 Q1 (out), 6 Q2 (out), 7 Q3 (out), 9 Q4 (out), 10 Q5 (out), 11 Q6 (out), 12 Q7 (out), 13 D, 14 G, 15 CLR
part B pins: 8 GND (power), 16 VCC (power)

## 74*259N
designator IC?, comment 8-bit addressable LATCH
footprint DIL16
part A pins: 1 S0, 2 S1, 3 S2, 4 Q0 (out), 5 Q1 (out), 6 Q2 (out), 7 Q3 (out), 9 Q4 (out), 10 Q5 (out), 11 Q6 (out), 12 Q7 (out), 13 D, 14 G, 15 CLR
part B pins: 8 GND (power), 16 VCC (power)

## 74*260D
designator IC?, comment Dual 5-input positive NOR gate
footprint SO14
part A pins: 1 I0, 2 I1, 3 I2, 5 O (out), 12 I3, 13 I4
part B pins: 4 I0, 6 O (out), 8 I1, 9 I2, 10 I3, 11 I4
part C pins: 7 GND (power), 14 VCC (power)

## 74*260FK
designator IC?, comment Dual 5-input positive NOR gate
footprint LCC20
part A pins: 2 I0, 3 I1, 4 I2, 8 O (out), 18 I3, 19 I4
part B pins: 6 I0, 9 O (out), 12 I1, 13 I2, 14 I3, 16 I4
part C pins: 10 GND (power), 20 VCC (power)

## 74*260N
designator IC?, comment Dual 5-input positive NOR gate
footprint DIL14
part A pins: 1 I0, 2 I1, 3 I2, 5 O (out), 12 I3, 13 I4
part B pins: 4 I0, 6 O (out), 8 I1, 9 I2, 10 I3, 11 I4
part C pins: 7 GND (power), 14 VCC (power)

## 74*261N
designator IC?, comment 2 by 4 bit parallel binary MULTIPLEXER
footprint DIL16
part A pins: 1 B3, 2 B4, 3 C, 4 M2, 5 Q4 (out), 6 Q3 (out), 7 Q2 (out), 9 Q1 (out), 10 Q0 (out), 11 M0, 12 M1, 13 B0, 14 B1, 15 B2
part B pins: 8 GND (power), 16 VCC (power)

## 74*266D
designator IC?, comment Quadruple EXCLUSIVE-NOR (XNOR), open-collector
footprint SO14
part A pins: 1 I0, 2 I1, 3 O (oc)
part B pins: 4 O (oc), 5 I0, 6 I1
part C pins: 8 I0, 9 I1, 10 O (oc)
part D pins: 11 O (oc), 12 I0, 13 I1
part E pins: 7 GND (power), 14 VCC (power)

## 74*266FK
designator IC?, comment Quadruple EXCLUSIVE-NOR (XNOR), open-collector
footprint LCC20
part A pins: 2 I0, 3 I1, 4 O (oc)
part B pins: 6 O (oc), 8 I0, 9 I1
part C pins: 12 I0, 13 I1, 14 O (oc)
part D pins: 16 O (oc), 18 I0, 19 I1
part E pins: 10 GND (power), 20 VCC (power)

## 74*266N
designator IC?, comment Quadruple EXCLUSIVE-NOR (XNOR), open-collector
footprint DIL14
part A pins: 1 I0, 2 I1, 3 O (oc)
part B pins: 4 O (oc), 5 I0, 6 I1
part C pins: 8 I0, 9 I1, 10 O (oc)
part D pins: 11 O (oc), 12 I0, 13 I1
part E pins: 7 GND (power), 14 VCC (power)

## 74*273DW
designator IC?, comment Octal D type FLIP FLOP, clear
footprint SO20W
part A pins: 1 CLR, 2 Q1 (out), 3 D1, 4 D2, 5 Q2 (out), 6 Q3 (out), 7 D3, 8 D4, 9 Q4 (out), 11 CLK, 12 Q5 (out), 13 D5, 14 D6, 15 Q6 (out), 16 Q7 (out), 17 D7, 18 D8, 19 Q8 (out)
part B pins: 10 GND (power), 20 VCC (power)

## 74*273FK
designator IC?, comment Octal D type FLIP FLOP, clear
footprint LCC20
part A pins: 1 CLR, 2 Q1 (out), 3 D1, 4 D2, 5 Q2 (out), 6 Q3 (out), 7 D3, 8 D4, 9 Q4 (out), 11 CLK, 12 Q5 (out), 13 D5, 14 D6, 15 Q6 (out), 16 Q7 (out), 17 D7, 18 D8, 19 Q8 (out)
part B pins: 10 GND (power), 20 VCC (power)

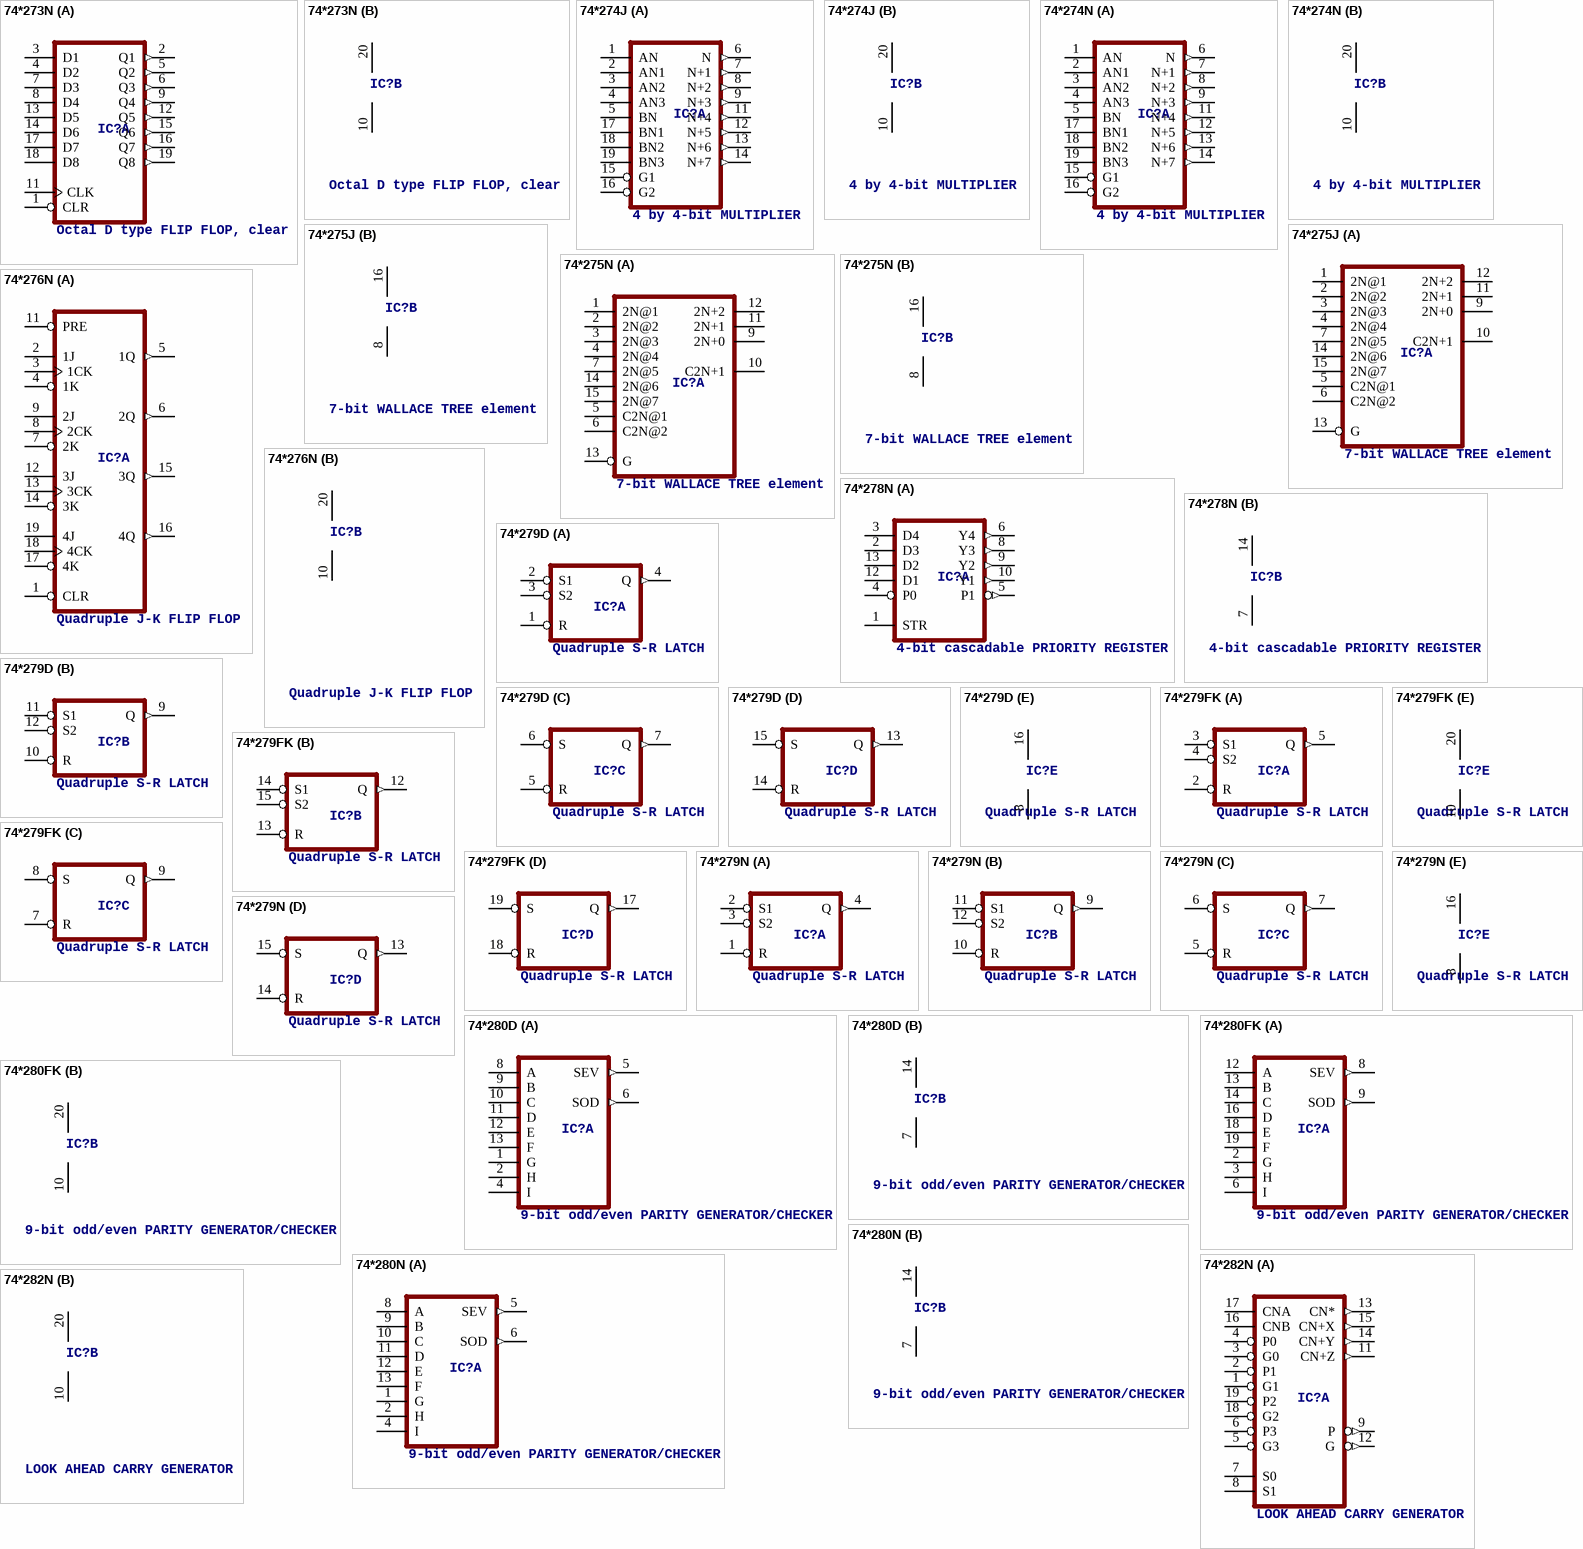
[diagram p32: symbols 74*273N to 74*282N]

## 74*273N
designator IC?, comment Octal D type FLIP FLOP, clear
footprint DIL20
part A pins: 1 CLR, 2 Q1 (out), 3 D1, 4 D2, 5 Q2 (out), 6 Q3 (out), 7 D3, 8 D4, 9 Q4 (out), 11 CLK, 12 Q5 (out), 13 D5, 14 D6, 15 Q6 (out), 16 Q7 (out), 17 D7, 18 D8, 19 Q8 (out)
part B pins: 10 GND (power), 20 VCC (power)

## 74*274J
designator IC?, comment 4 by 4-bit MULTIPLIER
footprint SO20W
part A pins: 1 AN, 2 AN1, 3 AN2, 4 AN3, 5 BN, 6 N (out), 7 N+1 (out), 8 N+2 (out), 9 N+3 (out), 11 N+4 (out), 12 N+5 (out), 13 N+6 (out), 14 N+7 (out), 15 G1, 16 G2, 17 BN1, 18 BN2, 19 BN3
part B pins: 10 GND (power), 20 VCC (power)

## 74*274N
designator IC?, comment 4 by 4-bit MULTIPLIER
footprint DIL20
part A pins: 1 AN, 2 AN1, 3 AN2, 4 AN3, 5 BN, 6 N (out), 7 N+1 (out), 8 N+2 (out), 9 N+3 (out), 11 N+4 (out), 12 N+5 (out), 13 N+6 (out), 14 N+7 (out), 15 G1, 16 G2, 17 BN1, 18 BN2, 19 BN3
part B pins: 10 GND (power), 20 VCC (power)

## 74*275J
designator IC?, comment 7-bit WALLACE TREE element
footprint SO16
part A pins: 1 2N@1, 2 2N@2, 3 2N@3, 4 2N@4, 5 C2N@1, 6 C2N@2, 7 2N@5, 9 2N+0 (hiz), 10 C2N+1 (hiz), 11 2N+1 (hiz), 12 2N+2 (hiz), 13 G, 14 2N@6, 15 2N@7
part B pins: 8 GND (power), 16 VCC (power)

## 74*275N
designator IC?, comment 7-bit WALLACE TREE element
footprint DIL16
part A pins: 1 2N@1, 2 2N@2, 3 2N@3, 4 2N@4, 5 C2N@1, 6 C2N@2, 7 2N@5, 9 2N+0 (hiz), 10 C2N+1 (hiz), 11 2N+1 (hiz), 12 2N+2 (hiz), 13 G, 14 2N@6, 15 2N@7
part B pins: 8 GND (power), 16 VCC (power)

## 74*276N
designator IC?, comment Quadruple J-K FLIP FLOP
footprint DIL20
part A pins: 1 CLR, 2 1J, 3 1CK, 4 1K, 5 1Q (out), 6 2Q (out), 7 2K, 8 2CK, 9 2J, 11 PRE, 12 3J, 13 3CK, 14 3K, 15 3Q (out), 16 4Q (out), 17 4K, 18 4CK, 19 4J
part B pins: 10 GND (power), 20 VCC (power)

## 74*278N
designator IC?, comment 4-bit cascadable PRIORITY REGISTER
footprint DIL14
part A pins: 1 STR, 2 D3, 3 D4, 4 P0, 5 P1 (out), 6 Y4 (out), 8 Y3 (out), 9 Y2 (out), 10 Y1 (out), 12 D1, 13 D2
part B pins: 7 GND (power), 14 VCC (power)

## 74*279D
designator IC?, comment Quadruple S-R LATCH
footprint SO16
part A pins: 1 R, 2 S1, 3 S2, 4 Q (out)
part B pins: 9 Q (out), 10 R, 11 S1, 12 S2
part C pins: 5 R, 6 S, 7 Q (out)
part D pins: 13 Q (out), 14 R, 15 S
part E pins: 8 GND (power), 16 VCC (power)

## 74*279FK
designator IC?, comment Quadruple S-R LATCH
footprint LCC20
part A pins: 2 R, 3 S1, 4 S2, 5 Q (out)
part B pins: 12 Q (out), 13 R, 14 S1, 15 S2
part C pins: 7 R, 8 S, 9 Q (out)
part D pins: 17 Q (out), 18 R, 19 S
part E pins: 10 GND (power), 20 VCC (power)

## 74*279N
designator IC?, comment Quadruple S-R LATCH
footprint DIL16
part A pins: 1 R, 2 S1, 3 S2, 4 Q (out)
part B pins: 9 Q (out), 10 R, 11 S1, 12 S2
part C pins: 5 R, 6 S, 7 Q (out)
part D pins: 13 Q (out), 14 R, 15 S
part E pins: 8 GND (power), 16 VCC (power)

## 74*280D
designator IC?, comment 9-bit odd/even PARITY GENERATOR/CHECKER
footprint SO14
part A pins: 1 G, 2 H, 4 I, 5 SEV (out), 6 SOD (out), 8 A, 9 B, 10 C, 11 D, 12 E, 13 F
part B pins: 7 GND (power), 14 VCC (power)

## 74*280FK
designator IC?, comment 9-bit odd/even PARITY GENERATOR/CHECKER
footprint LCC20
part A pins: 2 G, 3 H, 6 I, 8 SEV (out), 9 SOD (out), 12 A, 13 B, 14 C, 16 D, 18 E, 19 F
part B pins: 10 GND (power), 20 VCC (power)

## 74*280N
designator IC?, comment 9-bit odd/even PARITY GENERATOR/CHECKER
footprint DIL14
part A pins: 1 G, 2 H, 4 I, 5 SEV (out), 6 SOD (out), 8 A, 9 B, 10 C, 11 D, 12 E, 13 F
part B pins: 7 GND (power), 14 VCC (power)

## 74*282N
designator IC?, comment LOOK AHEAD CARRY GENERATOR
footprint DIL20
part A pins: 1 G1, 2 P1, 3 G0, 4 P0, 5 G3, 6 P3, 7 S0, 8 S1, 9 P (out), 11 CN+Z (out), 12 G (out), 13 CN* (out), 14 CN+Y (out), 15 CN+X (out), 16 CNB, 17 CNA, 18 G2, 19 P2
part B pins: 10 GND (power), 20 VCC (power)

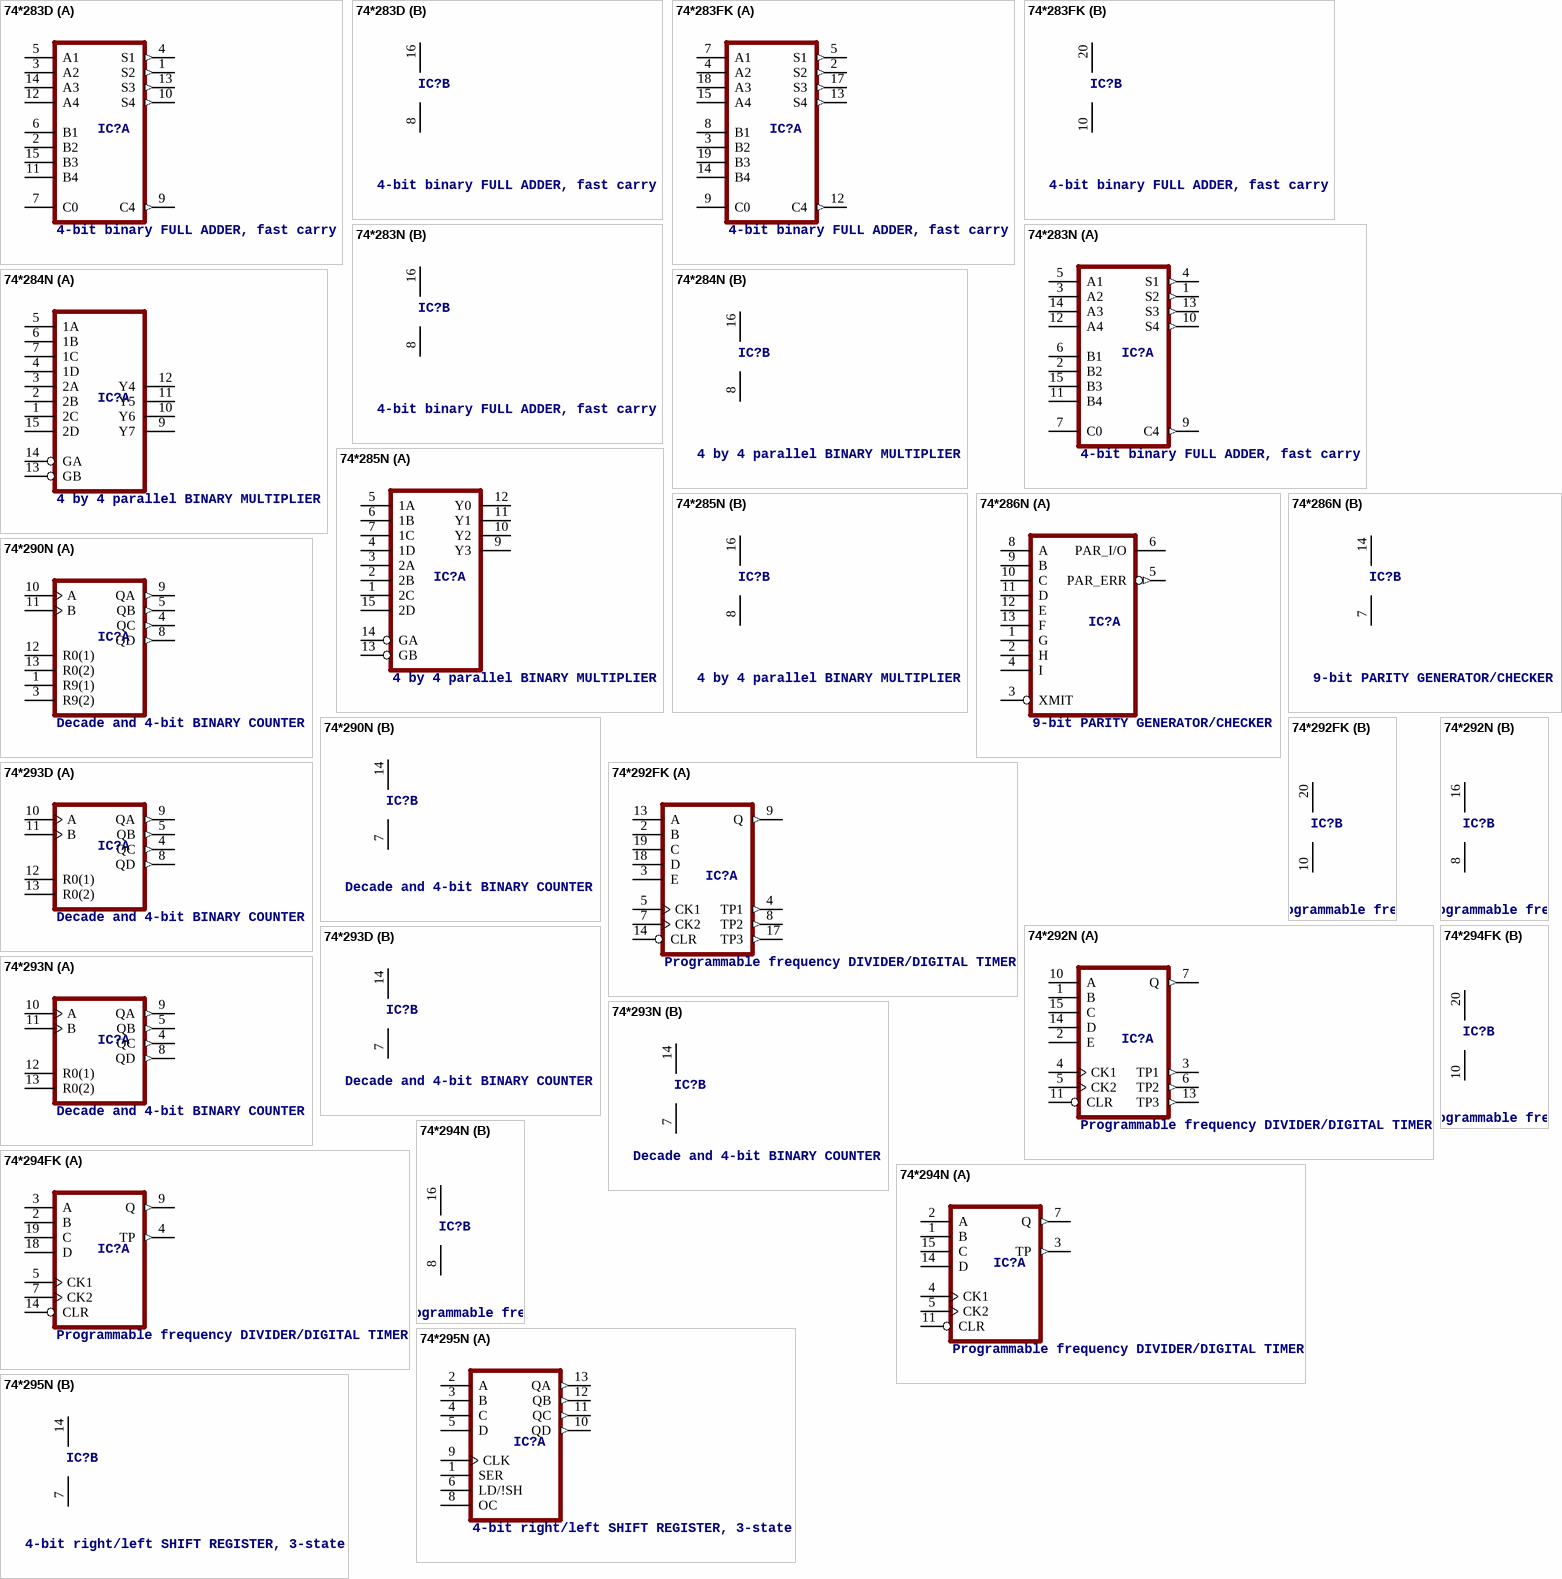
[diagram p33: symbols 74*283D to 74*295N]

## 74*283D
designator IC?, comment 4-bit binary FULL ADDER, fast carry
footprint SO16
part A pins: 1 S2 (out), 2 B2, 3 A2, 4 S1 (out), 5 A1, 6 B1, 7 C0, 9 C4 (out), 10 S4 (out), 11 B4, 12 A4, 13 S3 (out), 14 A3, 15 B3
part B pins: 8 GND (power), 16 VCC (power)

## 74*283FK
designator IC?, comment 4-bit binary FULL ADDER, fast carry
footprint LCC20
part A pins: 2 S2 (out), 3 B2, 4 A2, 5 S1 (out), 7 A1, 8 B1, 9 C0, 12 C4 (out), 13 S4 (out), 14 B4, 15 A4, 17 S3 (out), 18 A3, 19 B3
part B pins: 10 GND (power), 20 VCC (power)

## 74*283N
designator IC?, comment 4-bit binary FULL ADDER, fast carry
footprint DIL16
part A pins: 1 S2 (out), 2 B2, 3 A2, 4 S1 (out), 5 A1, 6 B1, 7 C0, 9 C4 (out), 10 S4 (out), 11 B4, 12 A4, 13 S3 (out), 14 A3, 15 B3
part B pins: 8 GND (power), 16 VCC (power)

## 74*284N
designator IC?, comment 4 by 4 parallel BINARY MULTIPLIER
footprint DIL16
part A pins: 1 2C, 2 2B, 3 2A, 4 1D, 5 1A, 6 1B, 7 1C, 9 Y7 (oc), 10 Y6 (oc), 11 Y5 (oc), 12 Y4 (oc), 13 GB, 14 GA, 15 2D
part B pins: 8 GND (power), 16 VCC (power)

## 74*285N
designator IC?, comment 4 by 4 parallel BINARY MULTIPLIER
footprint DIL16
part A pins: 1 2C, 2 2B, 3 2A, 4 1D, 5 1A, 6 1B, 7 1C, 9 Y3 (oc), 10 Y2 (oc), 11 Y1 (oc), 12 Y0 (oc), 13 GB, 14 GA, 15 2D
part B pins: 8 GND (power), 16 VCC (power)

## 74*286N
designator IC?, comment 9-bit PARITY GENERATOR/CHECKER
footprint DIL14
part A pins: 1 G, 2 H, 3 XMIT, 4 I, 5 PAR_ERR (out), 6 PAR_I/O, 8 A, 9 B, 10 C, 11 D, 12 E, 13 F
part B pins: 7 GND (power), 14 VCC (power)

## 74*290N
designator IC?, comment Decade and 4-bit BINARY COUNTER
footprint DIL14
part A pins: 1 R9(1), 3 R9(2), 4 QC (out), 5 QB (out), 8 QD (out), 9 QA (out), 10 A, 11 B, 12 R0(1), 13 R0(2)
part B pins: 7 GND (power), 14 VCC (power)

## 74*292FK
designator IC?, comment Programmable frequency DIVIDER/DIGITAL TIMER
footprint LCC20
part A pins: 2 B, 3 E, 4 TP1 (out), 5 CK1, 7 CK2, 8 TP2 (out), 9 Q (out), 13 A, 14 CLR, 17 TP3 (out), 18 D, 19 C
part B pins: 10 GND (power), 20 VCC (power)

## 74*292N
designator IC?, comment Programmable frequency DIVIDER/DIGITAL TIMER
footprint DIL16
part A pins: 1 B, 2 E, 3 TP1 (out), 4 CK1, 5 CK2, 6 TP2 (out), 7 Q (out), 10 A, 11 CLR, 13 TP3 (out), 14 D, 15 C
part B pins: 8 GND (power), 16 VCC (power)

## 74*293D
designator IC?, comment Decade and 4-bit BINARY COUNTER
footprint SO14
part A pins: 4 QC (out), 5 QB (out), 8 QD (out), 9 QA (out), 10 A, 11 B, 12 R0(1), 13 R0(2)
part B pins: 7 GND (power), 14 VCC (power)

## 74*293N
designator IC?, comment Decade and 4-bit BINARY COUNTER
footprint DIL14
part A pins: 4 QC (out), 5 QB (out), 8 QD (out), 9 QA (out), 10 A, 11 B, 12 R0(1), 13 R0(2)
part B pins: 7 GND (power), 14 VCC (power)

## 74*294FK
designator IC?, comment Programmable frequency DIVIDER/DIGITAL TIMER
footprint LCC20
part A pins: 2 B, 3 A, 4 TP (out), 5 CK1, 7 CK2, 9 Q (out), 14 CLR, 18 D, 19 C
part B pins: 10 GND (power), 20 VCC (power)

## 74*294N
designator IC?, comment Programmable frequency DIVIDER/DIGITAL TIMER
footprint DIL16
part A pins: 1 B, 2 A, 3 TP (out), 4 CK1, 5 CK2, 7 Q (out), 11 CLR, 14 D, 15 C
part B pins: 8 GND (power), 16 VCC (power)

## 74*295N
designator IC?, comment 4-bit right/left SHIFT REGISTER, 3-state
footprint DIL14
part A pins: 1 SER, 2 A, 3 B, 4 C, 5 D, 6 LD/!SH, 8 OC, 9 CLK, 10 QD (out), 11 QC (out), 12 QB (out), 13 QA (out)
part B pins: 7 GND (power), 14 VCC (power)

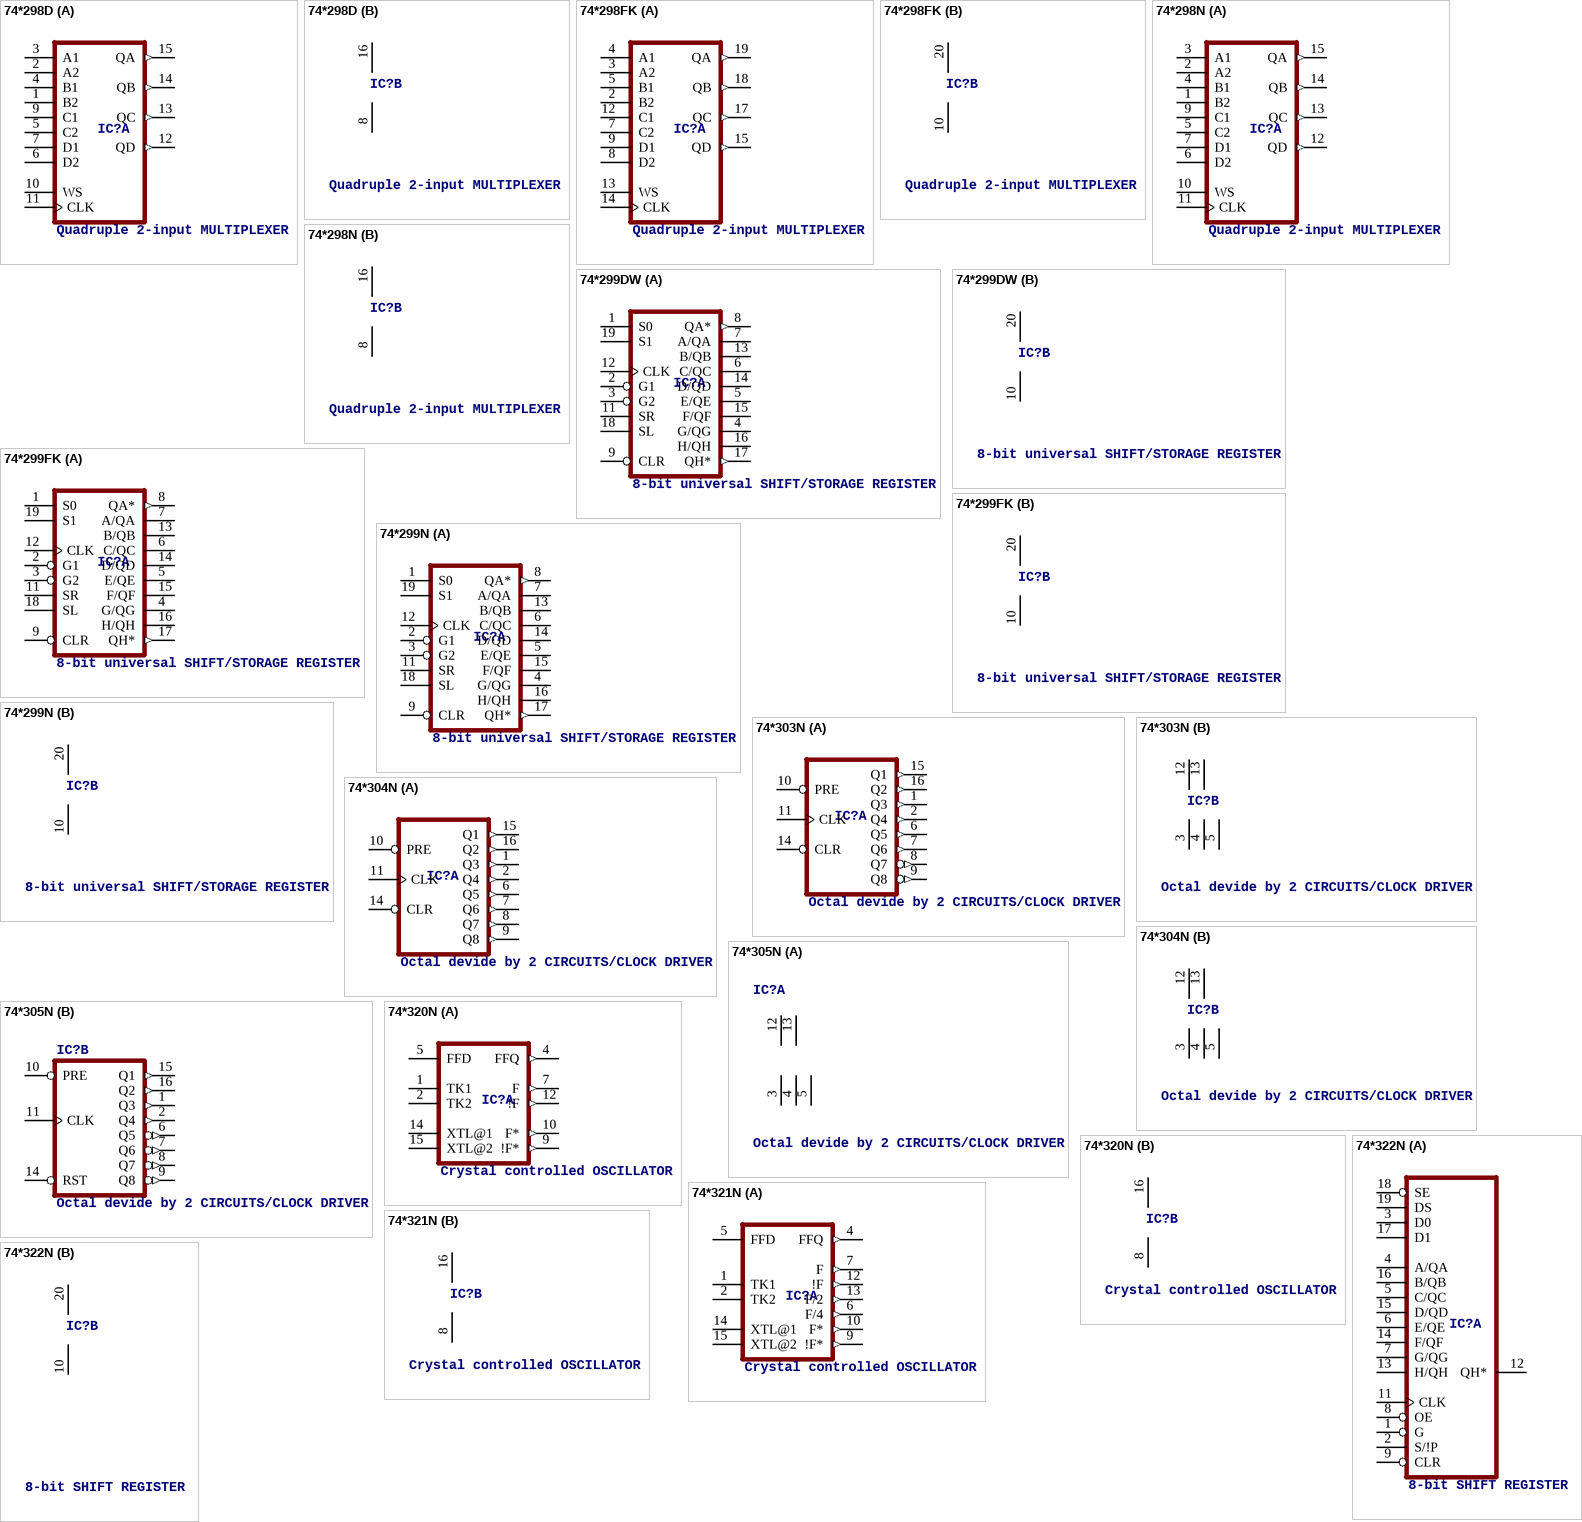
[diagram p34: symbols 74*298D to 74*322N]

## 74*298D
designator IC?, comment Quadruple 2-input MULTIPLEXER
footprint SO16
part A pins: 1 B2, 2 A2, 3 A1, 4 B1, 5 C2, 6 D2, 7 D1, 9 C1, 10 WS, 11 CLK, 12 QD (out), 13 QC (out), 14 QB (out), 15 QA (out)
part B pins: 8 GND (power), 16 VCC (power)

## 74*298FK
designator IC?, comment Quadruple 2-input MULTIPLEXER
footprint LCC20
part A pins: 2 B2, 3 A2, 4 A1, 5 B1, 7 C2, 8 D2, 9 D1, 12 C1, 13 WS, 14 CLK, 15 QD (out), 17 QC (out), 18 QB (out), 19 QA (out)
part B pins: 10 GND (power), 20 VCC (power)

## 74*298N
designator IC?, comment Quadruple 2-input MULTIPLEXER
footprint DIL16
part A pins: 1 B2, 2 A2, 3 A1, 4 B1, 5 C2, 6 D2, 7 D1, 9 C1, 10 WS, 11 CLK, 12 QD (out), 13 QC (out), 14 QB (out), 15 QA (out)
part B pins: 8 GND (power), 16 VCC (power)